# Altium integrated library Xilinx Spartan.IntLib: 39 symbols (part 2 of 4)
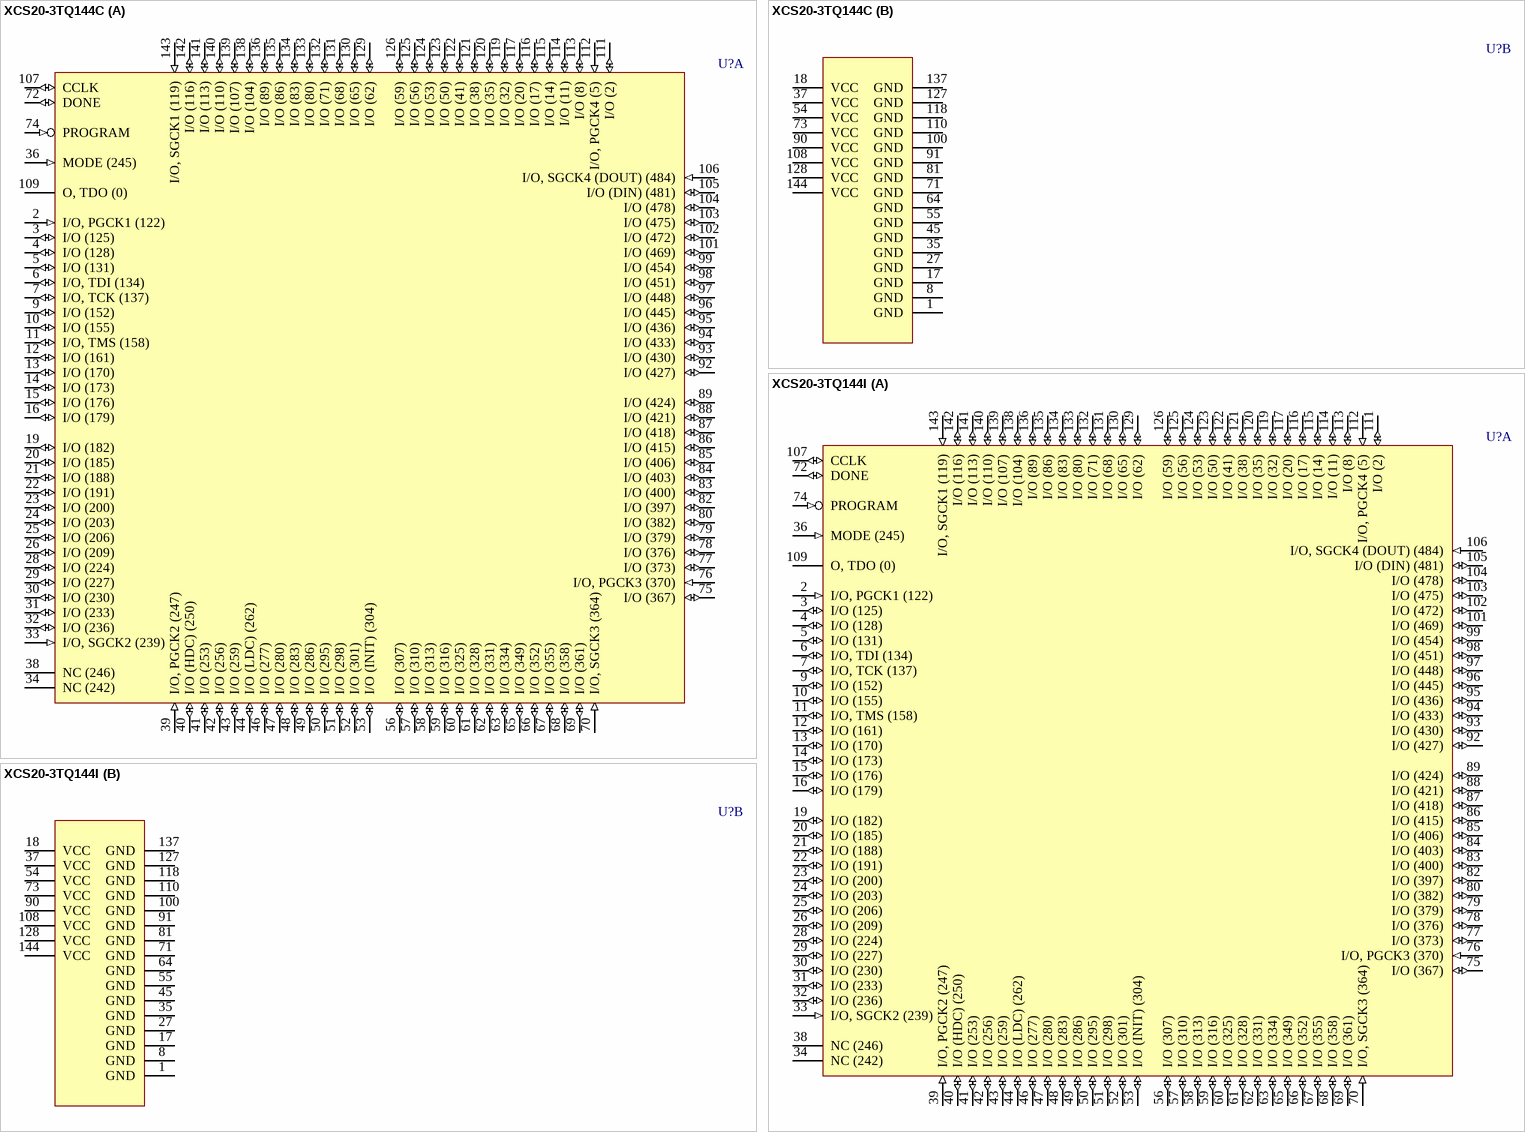
[diagram p27: symbols XCS20-3TQ144C to XCS20-3TQ144I]

## XCS20-3TQ144C
designator U?
Spartan FPGA, 113 User I/Os, 144-Pin TQFP, Speed Grade 3, Commercial Grade; Published: 13-Jul-2001; LatestRevisionDate: 16-Nov-2009; LatestRevisionNote: Updated to datasheet version 1.8 Jun-2008; DatasheetVersion: ver1.8, Jun-2008; PackageVersion: ver1.2, Jun-2004; PackageReference: TQ144; Publisher: Altium Limited; PackageDescription: 144-Pin Thin Quad Flat Pack (TQ144); Supplier 1: Digi-Key; Supplier Part Number 1: XCS20-3TQ144C-ND; Code_JEDEC: MS-026-BFB; ComponentLink1Description: Spartan(XL) Datasheet; ComponentLink1URL: http://www.xilinx.com/support/documentation/data_sheets/ds060.pdf; ComponentLink2Description: TQ144 Package Drawing; ComponentLink2URL: http://www.xilinx.com/support/documentation/package_specs/tq144.pdf; ComponentLink3Description: Spartan(XL) Documents; ComponentLink3URL: http://www.xilinx.com/support/documentation/spartan-xl.htm; ComponentLink4Description: Xilinx.com Home; ComponentLink4URL: http://www.xilinx.com
footprint TQ144_N (Thin QFP, 144-Leads, Body 20x20mm, Pitch 0.5mm, IPC Medium Density)
footprint TQ144_L (Thin QFP, 144-Leads, Body 20x20mm, Pitch 0.5mm, IPC High Density)
footprint TQ144_M (Thin QFP, 144-Leads, Body 20x20mm, Pitch 0.5mm, IPC Low Density)
part A pins: 2 I/O, PGCK1 (122) (in), 3 I/O (125) (io), 4 I/O (128) (io), 5 I/O (131) (io), 6 I/O, TDI (134) (io), 7 I/O, TCK (137) (io), 9 I/O (152) (io), 10 I/O (155) (io), 11 I/O, TMS (158) (io), 12 I/O (161) (io), 13 I/O (170) (io), 14 I/O (173) (io), 15 I/O (176) (io), 16 I/O (179) (io), 19 I/O (182) (io), 20 I/O (185) (io), 21 I/O (188) (io), 22 I/O (191) (io), 23 I/O (200) (io), 24 I/O (203) (io), 25 I/O (206) (io), 26 I/O (209) (io), 28 I/O (224) (io), 29 I/O (227) (io), 30 I/O (230) (io), 31 I/O (233) (io), 32 I/O (236) (io), 33 I/O, SGCK2 (239) (in), 34 NC (242), 36 MODE (245) (in), 38 NC (246), 39 I/O, PGCK2 (247) (in), 40 I/O (HDC) (250) (io), 41 I/O (253) (io), 42 I/O (256) (io), 43 I/O (259) (io), 44 I/O (LDC) (262) (io), 46 I/O (277) (io), 47 I/O (280) (io), 48 I/O (283) (io), 49 I/O (286) (io), 50 I/O (295) (io), 51 I/O (298) (io), 52 I/O (301) (io), 53 I/O (INIT) (304) (io), 56 I/O (307) (io), 57 I/O (310) (io), 58 I/O (313) (io), 59 I/O (316) (io), 60 I/O (325) (io), 61 I/O (328) (io), 62 I/O (331) (io), 63 I/O (334) (io), 65 I/O (349) (io), 66 I/O (352) (io), 67 I/O (355) (io), 68 I/O (358) (io), 69 I/O (361) (io), 70 I/O, SGCK3 (364) (in), 72 DONE (io), 74 PROGRAM (in), 75 I/O (367) (io), 76 I/O, PGCK3 (370) (in), 77 I/O (373) (io), 78 I/O (376) (io), 79 I/O (379) (io), 80 I/O (382) (io), 82 I/O (397) (io), 83 I/O (400) (io), 84 I/O (403) (io), 85 I/O (406) (io), 86 I/O (415) (io), 87 I/O (418) (io), 88 I/O (421) (io), 89 I/O (424) (io), 92 I/O (427) (io), 93 I/O (430) (io), 94 I/O (433) (io), 95 I/O (436) (io), 96 I/O (445) (io), 97 I/O (448) (io), 98 I/O (451) (io), 99 I/O (454) (io), 101 I/O (469) (io), 102 I/O (472) (io), 103 I/O (475) (io), 104 I/O (478) (io), 105 I/O (DIN) (481) (io), 106 I/O, SGCK4 (DOUT) (484) (in), 107 CCLK (io), 109 O, TDO (0) (hiz), 111 I/O (2) (io), 112 I/O, PGCK4 (5) (in), 113 I/O (8) (io), 114 I/O (11) (io), 115 I/O (14) (io), 116 I/O (17) (io), 117 I/O (20) (io), 119 I/O (32) (io), 120 I/O (35) (io), 121 I/O (38) (io), 122 I/O (41) (io), 123 I/O (50) (io), 124 I/O (53) (io), 125 I/O (56) (io), 126 I/O (59) (io), 129 I/O (62) (io), 130 I/O (65) (io), 131 I/O (68) (io), 132 I/O (71) (io), 133 I/O (80) (io), 134 I/O (83) (io), 135 I/O (86) (io), 136 I/O (89) (io), 138 I/O (104) (io), 139 I/O (107) (io), 140 I/O (110) (io), 141 I/O (113) (io), 142 I/O (116) (io), 143 I/O, SGCK1 (119) (in)
part B pins: 1 GND (power), 8 GND (power), 17 GND (power), 18 VCC (power), 27 GND (power), 35 GND (power), 37 VCC (power), 45 GND (power), 54 VCC (power), 55 GND (power), 64 GND (power), 71 GND (power), 73 VCC (power), 81 GND (power), 90 VCC (power), 91 GND (power), 100 GND (power), 108 VCC (power), 110 GND (power), 118 GND (power), 127 GND (power), 128 VCC (power), 137 GND (power), 144 VCC (power)

## XCS20-3TQ144I
designator U?
Spartan FPGA, 113 User I/Os, 144-Pin TQFP, Speed Grade 3, Industrial Grade; Published: 13-Jul-2001; LatestRevisionDate: 16-Nov-2009; LatestRevisionNote: Updated to datasheet version 1.8 Jun-2008; DatasheetVersion: ver1.8, Jun-2008; PackageVersion: ver1.2, Jun-2004; PackageReference: TQ144; Publisher: Altium Limited; PackageDescription: 144-Pin Thin Quad Flat Pack (TQ144); Supplier 1: Digi-Key; Supplier Part Number 1: XCS20-3TQ144I-ND; Code_JEDEC: MS-026-BFB; ComponentLink1Description: Spartan(XL) Datasheet; ComponentLink1URL: http://www.xilinx.com/support/documentation/data_sheets/ds060.pdf; ComponentLink2Description: TQ144 Package Drawing; ComponentLink2URL: http://www.xilinx.com/support/documentation/package_specs/tq144.pdf; ComponentLink3Description: Spartan(XL) Documents; ComponentLink3URL: http://www.xilinx.com/support/documentation/spartan-xl.htm; ComponentLink4Description: Xilinx.com Home; ComponentLink4URL: http://www.xilinx.com
footprint TQ144_N (Thin QFP, 144-Leads, Body 20x20mm, Pitch 0.5mm, IPC Medium Density)
footprint TQ144_L (Thin QFP, 144-Leads, Body 20x20mm, Pitch 0.5mm, IPC High Density)
footprint TQ144_M (Thin QFP, 144-Leads, Body 20x20mm, Pitch 0.5mm, IPC Low Density)
part A pins: 2 I/O, PGCK1 (122) (in), 3 I/O (125) (io), 4 I/O (128) (io), 5 I/O (131) (io), 6 I/O, TDI (134) (io), 7 I/O, TCK (137) (io), 9 I/O (152) (io), 10 I/O (155) (io), 11 I/O, TMS (158) (io), 12 I/O (161) (io), 13 I/O (170) (io), 14 I/O (173) (io), 15 I/O (176) (io), 16 I/O (179) (io), 19 I/O (182) (io), 20 I/O (185) (io), 21 I/O (188) (io), 22 I/O (191) (io), 23 I/O (200) (io), 24 I/O (203) (io), 25 I/O (206) (io), 26 I/O (209) (io), 28 I/O (224) (io), 29 I/O (227) (io), 30 I/O (230) (io), 31 I/O (233) (io), 32 I/O (236) (io), 33 I/O, SGCK2 (239) (in), 34 NC (242), 36 MODE (245) (in), 38 NC (246), 39 I/O, PGCK2 (247) (in), 40 I/O (HDC) (250) (io), 41 I/O (253) (io), 42 I/O (256) (io), 43 I/O (259) (io), 44 I/O (LDC) (262) (io), 46 I/O (277) (io), 47 I/O (280) (io), 48 I/O (283) (io), 49 I/O (286) (io), 50 I/O (295) (io), 51 I/O (298) (io), 52 I/O (301) (io), 53 I/O (INIT) (304) (io), 56 I/O (307) (io), 57 I/O (310) (io), 58 I/O (313) (io), 59 I/O (316) (io), 60 I/O (325) (io), 61 I/O (328) (io), 62 I/O (331) (io), 63 I/O (334) (io), 65 I/O (349) (io), 66 I/O (352) (io), 67 I/O (355) (io), 68 I/O (358) (io), 69 I/O (361) (io), 70 I/O, SGCK3 (364) (in), 72 DONE (io), 74 PROGRAM (in), 75 I/O (367) (io), 76 I/O, PGCK3 (370) (in), 77 I/O (373) (io), 78 I/O (376) (io), 79 I/O (379) (io), 80 I/O (382) (io), 82 I/O (397) (io), 83 I/O (400) (io), 84 I/O (403) (io), 85 I/O (406) (io), 86 I/O (415) (io), 87 I/O (418) (io), 88 I/O (421) (io), 89 I/O (424) (io), 92 I/O (427) (io), 93 I/O (430) (io), 94 I/O (433) (io), 95 I/O (436) (io), 96 I/O (445) (io), 97 I/O (448) (io), 98 I/O (451) (io), 99 I/O (454) (io), 101 I/O (469) (io), 102 I/O (472) (io), 103 I/O (475) (io), 104 I/O (478) (io), 105 I/O (DIN) (481) (io), 106 I/O, SGCK4 (DOUT) (484) (in), 107 CCLK (io), 109 O, TDO (0) (hiz), 111 I/O (2) (io), 112 I/O, PGCK4 (5) (in), 113 I/O (8) (io), 114 I/O (11) (io), 115 I/O (14) (io), 116 I/O (17) (io), 117 I/O (20) (io), 119 I/O (32) (io), 120 I/O (35) (io), 121 I/O (38) (io), 122 I/O (41) (io), 123 I/O (50) (io), 124 I/O (53) (io), 125 I/O (56) (io), 126 I/O (59) (io), 129 I/O (62) (io), 130 I/O (65) (io), 131 I/O (68) (io), 132 I/O (71) (io), 133 I/O (80) (io), 134 I/O (83) (io), 135 I/O (86) (io), 136 I/O (89) (io), 138 I/O (104) (io), 139 I/O (107) (io), 140 I/O (110) (io), 141 I/O (113) (io), 142 I/O (116) (io), 143 I/O, SGCK1 (119) (in)
part B pins: 1 GND (power), 8 GND (power), 17 GND (power), 18 VCC (power), 27 GND (power), 35 GND (power), 37 VCC (power), 45 GND (power), 54 VCC (power), 55 GND (power), 64 GND (power), 71 GND (power), 73 VCC (power), 81 GND (power), 90 VCC (power), 91 GND (power), 100 GND (power), 108 VCC (power), 110 GND (power), 118 GND (power), 127 GND (power), 128 VCC (power), 137 GND (power), 144 VCC (power)

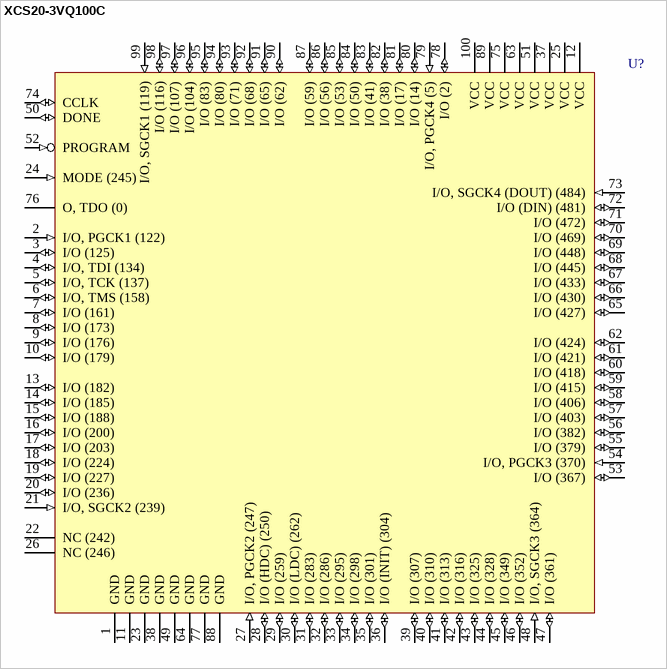
[diagram p7: symbol XCS20-3VQ100C]

## XCS20-3VQ100C
designator U?
Spartan FPGA, 77 User I/Os, 100-Pin VQFP, Speed Grade 3, Commercial Grade; Published: 13-Jul-2001; LatestRevisionDate: 16-Nov-2009; LatestRevisionNote: Updated to datasheet version 1.8 Jun-2008; DatasheetVersion: ver1.8, Jun-2008; PackageVersion: ver1.2.1, Feb-2007; PackageReference: VQ100; Publisher: Altium Limited; PackageDescription: 100-Pin Very Thin Quad Flat Pack (VQ100); Supplier 1: Digi-Key; Supplier Part Number 1: XCS20-3VQ100C-ND; Code_JEDEC: MS-026-AED; ComponentLink1Description: Spartan(XL) Datasheet; ComponentLink1URL: http://www.xilinx.com/support/documentation/data_sheets/ds060.pdf; ComponentLink2Description: VQ100 Package Drawing; ComponentLink2URL: http://www.xilinx.com/support/documentation/package_specs/vq100.pdf; ComponentLink3Description: Spartan(XL) Documents; ComponentLink3URL: http://www.xilinx.com/support/documentation/spartan-xl.htm; ComponentLink4Description: Xilinx.com Home; ComponentLink4URL: http://www.xilinx.com
footprint VQ100_N (Thin QFP, 100-Leads, Body 14x14mm, Pitch 0.5mm, IPC Medium Density)
footprint VQ100_L (Thin QFP, 100-Leads, Body 14x14mm, Pitch 0.5mm, IPC High Density)
footprint VQ100_M (Thin QFP, 100-Leads, Body 14x14mm, Pitch 0.5mm, IPC Low Density)
pins: 1 GND (power), 2 I/O, PGCK1 (122) (in), 3 I/O (125) (io), 4 I/O, TDI (134) (io), 5 I/O, TCK (137) (io), 6 I/O, TMS (158) (io), 7 I/O (161) (io), 8 I/O (173) (io), 9 I/O (176) (io), 10 I/O (179) (io), 11 GND (power), 12 VCC (power), 13 I/O (182) (io), 14 I/O (185) (io), 15 I/O (188) (io), 16 I/O (200) (io), 17 I/O (203) (io), 18 I/O (224) (io), 19 I/O (227) (io), 20 I/O (236) (io), 21 I/O, SGCK2 (239) (in), 22 NC (242), 23 GND (power), 24 MODE (245) (in), 25 VCC (power), 26 NC (246), 27 I/O, PGCK2 (247) (in), 28 I/O (HDC) (250) (io), 29 I/O (259) (io), 30 I/O (LDC) (262) (io), 31 I/O (283) (io), 32 I/O (286) (io), 33 I/O (295) (io), 34 I/O (298) (io), 35 I/O (301) (io), 36 I/O (INIT) (304) (io), 37 VCC (power), 38 GND (power), 39 I/O (307) (io), 40 I/O (310) (io), 41 I/O (313) (io), 42 I/O (316) (io), 43 I/O (325) (io), 44 I/O (328) (io), 45 I/O (349) (io), 46 I/O (352) (io), 47 I/O (361) (io), 48 I/O, SGCK3 (364) (in), 49 GND (power), 50 DONE (io), 51 VCC (power), 52 PROGRAM (in), 53 I/O (367) (io), 54 I/O, PGCK3 (370) (in), 55 I/O (379) (io), 56 I/O (382) (io), 57 I/O (403) (io), 58 I/O (406) (io), 59 I/O (415) (io), 60 I/O (418) (io), 61 I/O (421) (io), 62 I/O (424) (io), 63 VCC (power), 64 GND (power), 65 I/O (427) (io), 66 I/O (430) (io), 67 I/O (433) (io), 68 I/O (445) (io), 69 I/O (448) (io), 70 I/O (469) (io), 71 I/O (472) (io), 72 I/O (DIN) (481) (io), 73 I/O, SGCK4 (DOUT) (484) (in), 74 CCLK (io), 75 VCC (power), 76 O, TDO (0) (hiz), 77 GND (power), 78 I/O (2) (io), 79 I/O, PGCK4 (5) (in), 80 I/O (14) (io), 81 I/O (17) (io), 82 I/O (38) (io), 83 I/O (41) (io), 84 I/O (50) (io), 85 I/O (53) (io), 86 I/O (56) (io), 87 I/O (59) (io), 88 GND (power), 89 VCC (power), 90 I/O (62) (io), 91 I/O (65) (io), 92 I/O (68) (io), 93 I/O (71) (io), 94 I/O (80) (io), 95 I/O (83) (io), 96 I/O (104) (io), 97 I/O (107) (io), 98 I/O (116) (io), 99 I/O, SGCK1 (119) (in), 100 VCC (power)

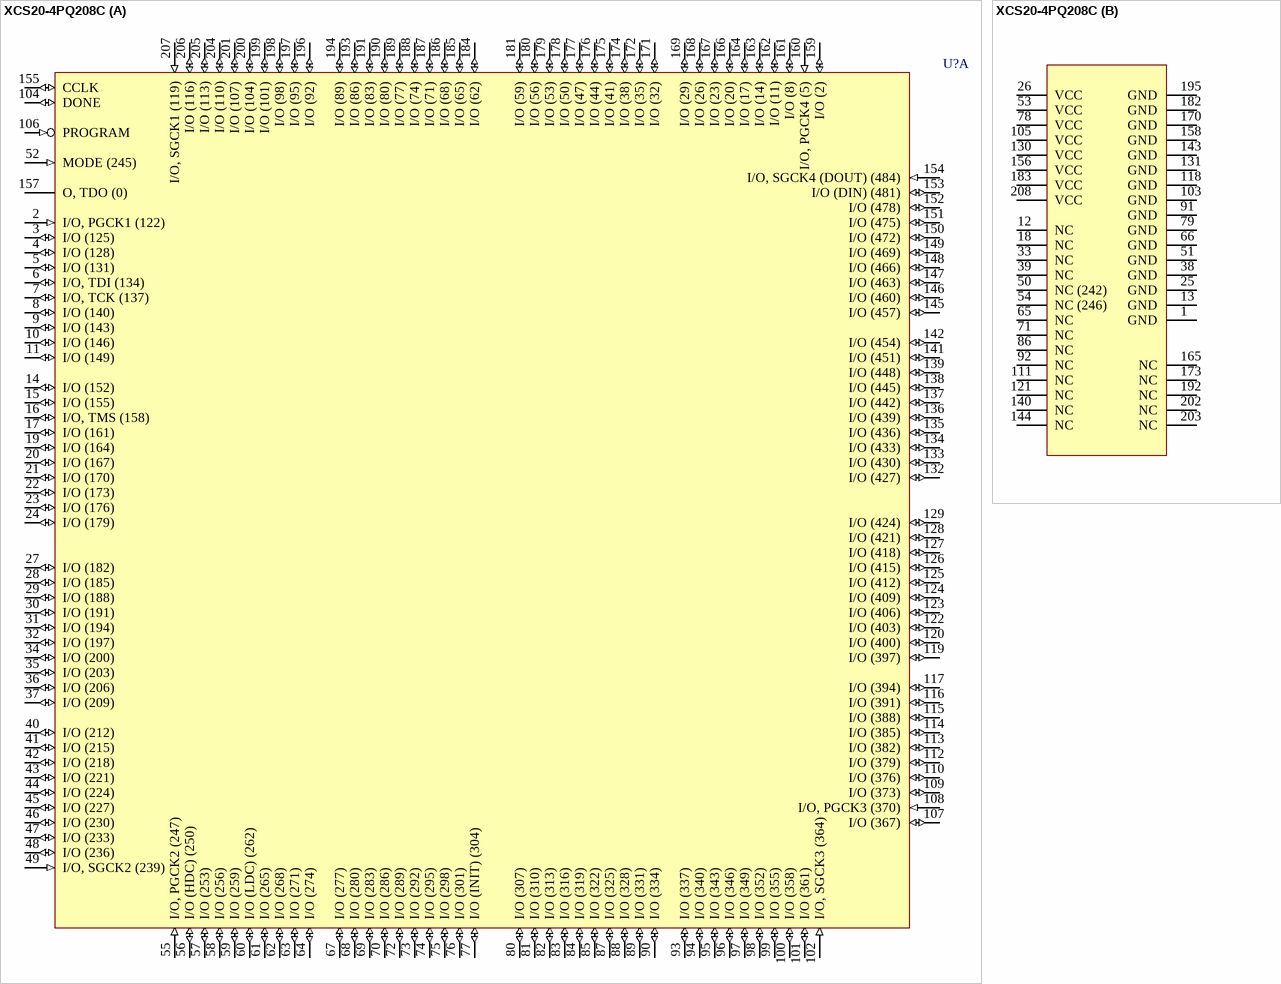
[diagram p8: symbol XCS20-4PQ208C]

## XCS20-4PQ208C
designator U?
Spartan FPGA, 160 User I/Os, 208-Pin PQFP, Speed Grade 4, Commercial Grade; Published: 13-Jul-2001; LatestRevisionDate: 16-Nov-2009; LatestRevisionNote: Updated to datasheet version 1.8 Jun-2008; DatasheetVersion: ver1.8, Jun-2008; PackageVersion: ver1.2, Jun-2004; PackageReference: PQ208; Publisher: Altium Limited; PackageDescription: 208-Pin Plastic Quad Flat Pack (PQ208); Supplier 1: Digi-Key; Supplier Part Number 1: XCS20-4PQ208C-ND; Code_JEDEC: MS-029-FA-1; ComponentLink1Description: Spartan(XL) Datasheet; ComponentLink1URL: http://www.xilinx.com/support/documentation/data_sheets/ds060.pdf; ComponentLink2Description: PQ208 Package Drawing; ComponentLink2URL: http://www.xilinx.com/support/documentation/package_specs/pq208.pdf; ComponentLink3Description: Spartan(XL) Documents; ComponentLink3URL: http://www.xilinx.com/support/documentation/spartan-xl.htm; ComponentLink4Description: Xilinx.com Home; ComponentLink4URL: http://www.xilinx.com
footprint PQ208_N (Shrink QFP, 208-Leads, Body 28x28mm, Pitch 0.5mm, IPC Medium Density)
footprint PQ208_L (Shrink QFP, 208-Leads, Body 28x28mm, Pitch 0.5mm, IPC High Density)
footprint PQ208_M (Shrink QFP, 208-Leads, Body 28x28mm, Pitch 0.5mm, IPC Low Density)
part A pins: 2 I/O, PGCK1 (122) (in), 3 I/O (125) (io), 4 I/O (128) (io), 5 I/O (131) (io), 6 I/O, TDI (134) (io), 7 I/O, TCK (137) (io), 8 I/O (140) (io), 9 I/O (143) (io), 10 I/O (146) (io), 11 I/O (149) (io), 14 I/O (152) (io), 15 I/O (155) (io), 16 I/O, TMS (158) (io), 17 I/O (161) (io), 19 I/O (164) (io), 20 I/O (167) (io), 21 I/O (170) (io), 22 I/O (173) (io), 23 I/O (176) (io), 24 I/O (179) (io), 27 I/O (182) (io), 28 I/O (185) (io), 29 I/O (188) (io), 30 I/O (191) (io), 31 I/O (194) (io), 32 I/O (197) (io), 34 I/O (200) (io), 35 I/O (203) (io), 36 I/O (206) (io), 37 I/O (209) (io), 40 I/O (212) (io), 41 I/O (215) (io), 42 I/O (218) (io), 43 I/O (221) (io), 44 I/O (224) (io), 45 I/O (227) (io), 46 I/O (230) (io), 47 I/O (233) (io), 48 I/O (236) (io), 49 I/O, SGCK2 (239) (in), 52 MODE (245) (in), 55 I/O, PGCK2 (247) (in), 56 I/O (HDC) (250) (io), 57 I/O (253) (io), 58 I/O (256) (io), 59 I/O (259) (io), 60 I/O (LDC) (262) (io), 61 I/O (265) (io), 62 I/O (268) (io), 63 I/O (271) (io), 64 I/O (274) (io), 67 I/O (277) (io), 68 I/O (280) (io), 69 I/O (283) (io), 70 I/O (286) (io), 72 I/O (289) (io), 73 I/O (292) (io), 74 I/O (295) (io), 75 I/O (298) (io), 76 I/O (301) (io), 77 I/O (INIT) (304) (io), 80 I/O (307) (io), 81 I/O (310) (io), 82 I/O (313) (io), 83 I/O (316) (io), 84 I/O (319) (io), 85 I/O (322) (io), 87 I/O (325) (io), 88 I/O (328) (io), 89 I/O (331) (io), 90 I/O (334) (io), 93 I/O (337) (io), 94 I/O (340) (io), 95 I/O (343) (io), 96 I/O (346) (io), 97 I/O (349) (io), 98 I/O (352) (io), 99 I/O (355) (io), 100 I/O (358) (io), 101 I/O (361) (io), 102 I/O, SGCK3 (364) (in), 104 DONE (io), 106 PROGRAM (in), 107 I/O (367) (io), 108 I/O, PGCK3 (370) (in), 109 I/O (373) (io), 110 I/O (376) (io), 112 I/O (379) (io), 113 I/O (382) (io), 114 I/O (385) (io), 115 I/O (388) (io), 116 I/O (391) (io), 117 I/O (394) (io), 119 I/O (397) (io), 120 I/O (400) (io), 122 I/O (403) (io), 123 I/O (406) (io), 124 I/O (409) (io), 125 I/O (412) (io), 126 I/O (415) (io), 127 I/O (418) (io), 128 I/O (421) (io), 129 I/O (424) (io), 132 I/O (427) (io), 133 I/O (430) (io), 134 I/O (433) (io), 135 I/O (436) (io), 136 I/O (439) (io), 137 I/O (442) (io), 138 I/O (445) (io), 139 I/O (448) (io), 141 I/O (451) (io), 142 I/O (454) (io), 145 I/O (457) (io), 146 I/O (460) (io), 147 I/O (463) (io), 148 I/O (466) (io), 149 I/O (469) (io), 150 I/O (472) (io), 151 I/O (475) (io), 152 I/O (478) (io), 153 I/O (DIN) (481) (io), 154 I/O, SGCK4 (DOUT) (484) (in), 155 CCLK (io), 157 O, TDO (0) (hiz), 159 I/O (2) (io), 160 I/O, PGCK4 (5) (in), 161 I/O (8) (io), 162 I/O (11) (io), 163 I/O (14) (io), 164 I/O (17) (io), 166 I/O (20) (io), 167 I/O (23) (io), 168 I/O (26) (io), 169 I/O (29) (io), 171 I/O (32) (io), 172 I/O (35) (io), 174 I/O (38) (io), 175 I/O (41) (io), 176 I/O (44) (io), 177 I/O (47) (io), 178 I/O (50) (io), 179 I/O (53) (io), 180 I/O (56) (io), 181 I/O (59) (io), 184 I/O (62) (io), 185 I/O (65) (io), 186 I/O (68) (io), 187 I/O (71) (io), 188 I/O (74) (io), 189 I/O (77) (io), 190 I/O (80) (io), 191 I/O (83) (io), 193 I/O (86) (io), 194 I/O (89) (io), 196 I/O (92) (io), 197 I/O (95) (io), 198 I/O (98) (io), 199 I/O (101) (io), 200 I/O (104) (io), 201 I/O (107) (io), 204 I/O (110) (io), 205 I/O (113) (io), 206 I/O (116) (io), 207 I/O, SGCK1 (119) (in)
part B pins: 1 GND (power), 12 NC, 13 GND (power), 18 NC, 25 GND (power), 26 VCC (power), 33 NC, 38 GND (power), 39 NC, 50 NC (242), 51 GND (power), 53 VCC (power), 54 NC (246), 65 NC, 66 GND (power), 71 NC, 78 VCC (power), 79 GND (power), 86 NC, 91 GND (power), 92 NC, 103 GND (power), 105 VCC (power), 111 NC, 118 GND (power), 121 NC, 130 VCC (power), 131 GND (power), 140 NC, 143 GND (power), 144 NC, 156 VCC (power), 158 GND (power), 165 NC, 170 GND (power), 173 NC, 182 GND (power), 183 VCC (power), 192 NC, 195 GND (power), 202 NC, 203 NC, 208 VCC (power)

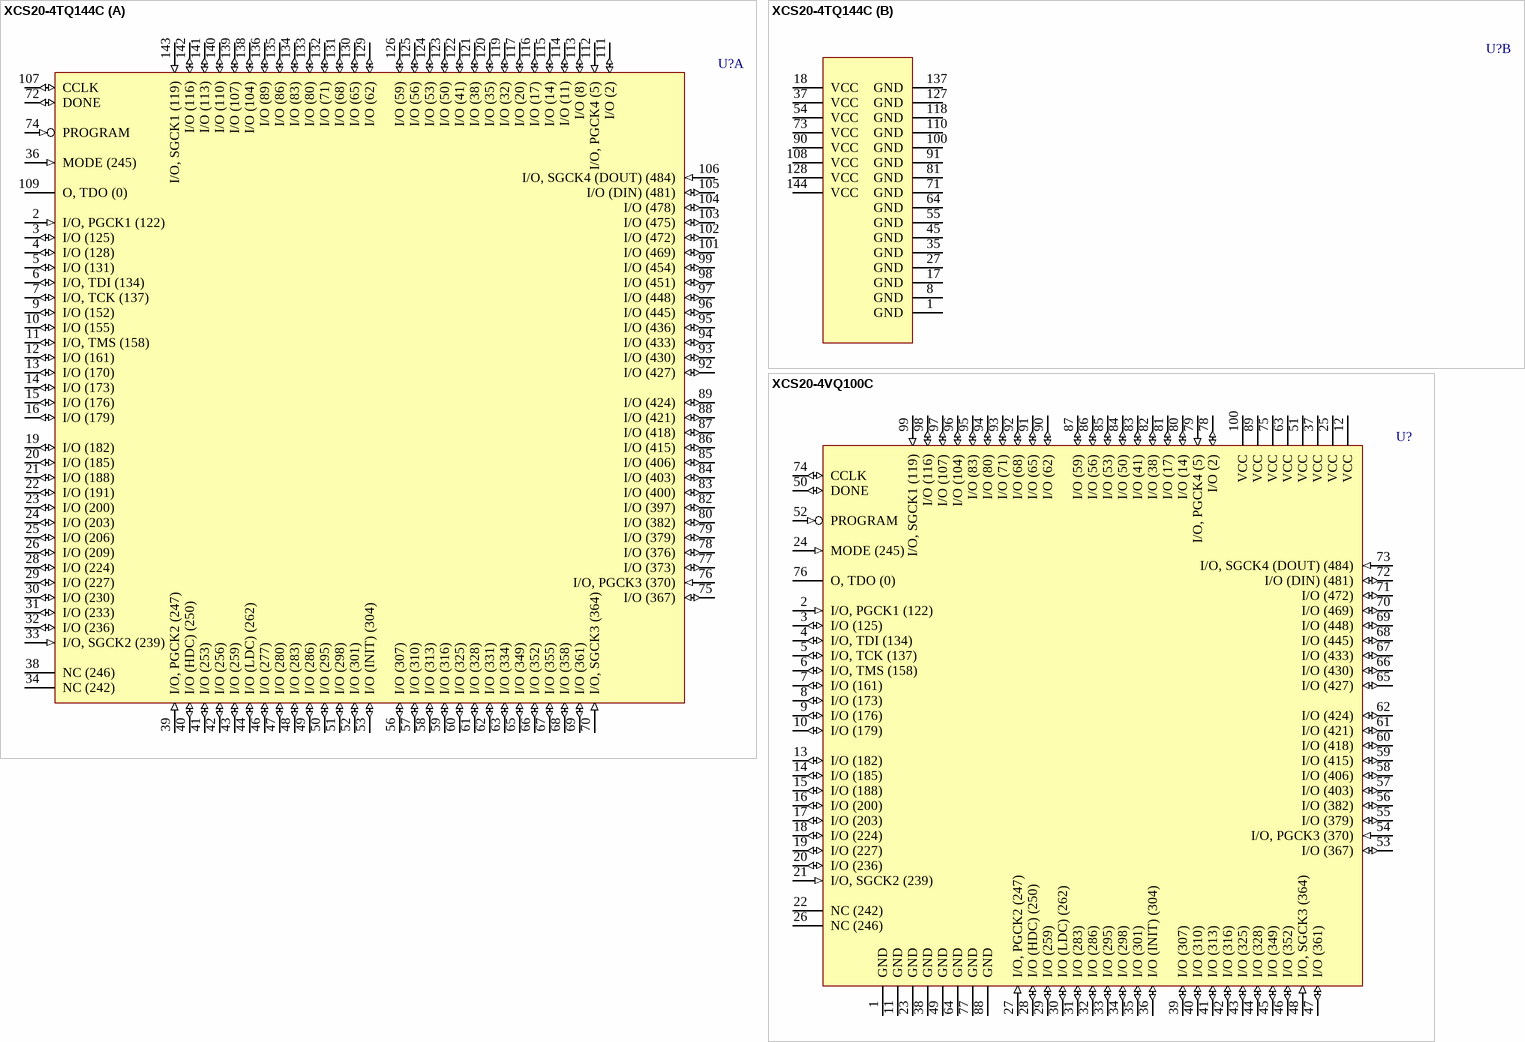
[diagram p9: symbols XCS20-4TQ144C to XCS20-4VQ100C]

## XCS20-4TQ144C
designator U?
Spartan FPGA, 113 User I/Os, 144-Pin TQFP, Speed Grade 4, Commercial Grade; Published: 13-Jul-2001; LatestRevisionDate: 16-Nov-2009; LatestRevisionNote: Updated to datasheet version 1.8 Jun-2008; DatasheetVersion: ver1.8, Jun-2008; PackageVersion: ver1.2, Jun-2004; PackageReference: TQ144; Publisher: Altium Limited; PackageDescription: 144-Pin Thin Quad Flat Pack (TQ144); Supplier 1: Digi-Key; Supplier Part Number 1: XCS20-4TQ144C-ND; Code_JEDEC: MS-026-BFB; ComponentLink1Description: Spartan(XL) Datasheet; ComponentLink1URL: http://www.xilinx.com/support/documentation/data_sheets/ds060.pdf; ComponentLink2Description: TQ144 Package Drawing; ComponentLink2URL: http://www.xilinx.com/support/documentation/package_specs/tq144.pdf; ComponentLink3Description: Spartan(XL) Documents; ComponentLink3URL: http://www.xilinx.com/support/documentation/spartan-xl.htm; ComponentLink4Description: Xilinx.com Home; ComponentLink4URL: http://www.xilinx.com
footprint TQ144_N (Thin QFP, 144-Leads, Body 20x20mm, Pitch 0.5mm, IPC Medium Density)
footprint TQ144_L (Thin QFP, 144-Leads, Body 20x20mm, Pitch 0.5mm, IPC High Density)
footprint TQ144_M (Thin QFP, 144-Leads, Body 20x20mm, Pitch 0.5mm, IPC Low Density)
part A pins: 2 I/O, PGCK1 (122) (in), 3 I/O (125) (io), 4 I/O (128) (io), 5 I/O (131) (io), 6 I/O, TDI (134) (io), 7 I/O, TCK (137) (io), 9 I/O (152) (io), 10 I/O (155) (io), 11 I/O, TMS (158) (io), 12 I/O (161) (io), 13 I/O (170) (io), 14 I/O (173) (io), 15 I/O (176) (io), 16 I/O (179) (io), 19 I/O (182) (io), 20 I/O (185) (io), 21 I/O (188) (io), 22 I/O (191) (io), 23 I/O (200) (io), 24 I/O (203) (io), 25 I/O (206) (io), 26 I/O (209) (io), 28 I/O (224) (io), 29 I/O (227) (io), 30 I/O (230) (io), 31 I/O (233) (io), 32 I/O (236) (io), 33 I/O, SGCK2 (239) (in), 34 NC (242), 36 MODE (245) (in), 38 NC (246), 39 I/O, PGCK2 (247) (in), 40 I/O (HDC) (250) (io), 41 I/O (253) (io), 42 I/O (256) (io), 43 I/O (259) (io), 44 I/O (LDC) (262) (io), 46 I/O (277) (io), 47 I/O (280) (io), 48 I/O (283) (io), 49 I/O (286) (io), 50 I/O (295) (io), 51 I/O (298) (io), 52 I/O (301) (io), 53 I/O (INIT) (304) (io), 56 I/O (307) (io), 57 I/O (310) (io), 58 I/O (313) (io), 59 I/O (316) (io), 60 I/O (325) (io), 61 I/O (328) (io), 62 I/O (331) (io), 63 I/O (334) (io), 65 I/O (349) (io), 66 I/O (352) (io), 67 I/O (355) (io), 68 I/O (358) (io), 69 I/O (361) (io), 70 I/O, SGCK3 (364) (in), 72 DONE (io), 74 PROGRAM (in), 75 I/O (367) (io), 76 I/O, PGCK3 (370) (in), 77 I/O (373) (io), 78 I/O (376) (io), 79 I/O (379) (io), 80 I/O (382) (io), 82 I/O (397) (io), 83 I/O (400) (io), 84 I/O (403) (io), 85 I/O (406) (io), 86 I/O (415) (io), 87 I/O (418) (io), 88 I/O (421) (io), 89 I/O (424) (io), 92 I/O (427) (io), 93 I/O (430) (io), 94 I/O (433) (io), 95 I/O (436) (io), 96 I/O (445) (io), 97 I/O (448) (io), 98 I/O (451) (io), 99 I/O (454) (io), 101 I/O (469) (io), 102 I/O (472) (io), 103 I/O (475) (io), 104 I/O (478) (io), 105 I/O (DIN) (481) (io), 106 I/O, SGCK4 (DOUT) (484) (in), 107 CCLK (io), 109 O, TDO (0) (hiz), 111 I/O (2) (io), 112 I/O, PGCK4 (5) (in), 113 I/O (8) (io), 114 I/O (11) (io), 115 I/O (14) (io), 116 I/O (17) (io), 117 I/O (20) (io), 119 I/O (32) (io), 120 I/O (35) (io), 121 I/O (38) (io), 122 I/O (41) (io), 123 I/O (50) (io), 124 I/O (53) (io), 125 I/O (56) (io), 126 I/O (59) (io), 129 I/O (62) (io), 130 I/O (65) (io), 131 I/O (68) (io), 132 I/O (71) (io), 133 I/O (80) (io), 134 I/O (83) (io), 135 I/O (86) (io), 136 I/O (89) (io), 138 I/O (104) (io), 139 I/O (107) (io), 140 I/O (110) (io), 141 I/O (113) (io), 142 I/O (116) (io), 143 I/O, SGCK1 (119) (in)
part B pins: 1 GND (power), 8 GND (power), 17 GND (power), 18 VCC (power), 27 GND (power), 35 GND (power), 37 VCC (power), 45 GND (power), 54 VCC (power), 55 GND (power), 64 GND (power), 71 GND (power), 73 VCC (power), 81 GND (power), 90 VCC (power), 91 GND (power), 100 GND (power), 108 VCC (power), 110 GND (power), 118 GND (power), 127 GND (power), 128 VCC (power), 137 GND (power), 144 VCC (power)

## XCS20-4VQ100C
designator U?
Spartan FPGA, 77 User I/Os, 100-Pin VQFP, Speed Grade 4, Commercial Grade; Published: 13-Jul-2001; LatestRevisionDate: 16-Nov-2009; LatestRevisionNote: Updated to datasheet version 1.8 Jun-2008; DatasheetVersion: ver1.8, Jun-2008; PackageVersion: ver1.2.1, Feb-2007; PackageReference: VQ100; Publisher: Altium Limited; PackageDescription: 100-Pin Very Thin Quad Flat Pack (VQ100); Supplier 1: Digi-Key; Supplier Part Number 1: XCS20-4VQ100C-ND; Code_JEDEC: MS-026-AED; ComponentLink1Description: Spartan(XL) Datasheet; ComponentLink1URL: http://www.xilinx.com/support/documentation/data_sheets/ds060.pdf; ComponentLink2Description: VQ100 Package Drawing; ComponentLink2URL: http://www.xilinx.com/support/documentation/package_specs/vq100.pdf; ComponentLink3Description: Spartan(XL) Documents; ComponentLink3URL: http://www.xilinx.com/support/documentation/spartan-xl.htm; ComponentLink4Description: Xilinx.com Home; ComponentLink4URL: http://www.xilinx.com
footprint VQ100_N (Thin QFP, 100-Leads, Body 14x14mm, Pitch 0.5mm, IPC Medium Density)
footprint VQ100_L (Thin QFP, 100-Leads, Body 14x14mm, Pitch 0.5mm, IPC High Density)
footprint VQ100_M (Thin QFP, 100-Leads, Body 14x14mm, Pitch 0.5mm, IPC Low Density)
pins: 1 GND (power), 2 I/O, PGCK1 (122) (in), 3 I/O (125) (io), 4 I/O, TDI (134) (io), 5 I/O, TCK (137) (io), 6 I/O, TMS (158) (io), 7 I/O (161) (io), 8 I/O (173) (io), 9 I/O (176) (io), 10 I/O (179) (io), 11 GND (power), 12 VCC (power), 13 I/O (182) (io), 14 I/O (185) (io), 15 I/O (188) (io), 16 I/O (200) (io), 17 I/O (203) (io), 18 I/O (224) (io), 19 I/O (227) (io), 20 I/O (236) (io), 21 I/O, SGCK2 (239) (in), 22 NC (242), 23 GND (power), 24 MODE (245) (in), 25 VCC (power), 26 NC (246), 27 I/O, PGCK2 (247) (in), 28 I/O (HDC) (250) (io), 29 I/O (259) (io), 30 I/O (LDC) (262) (io), 31 I/O (283) (io), 32 I/O (286) (io), 33 I/O (295) (io), 34 I/O (298) (io), 35 I/O (301) (io), 36 I/O (INIT) (304) (io), 37 VCC (power), 38 GND (power), 39 I/O (307) (io), 40 I/O (310) (io), 41 I/O (313) (io), 42 I/O (316) (io), 43 I/O (325) (io), 44 I/O (328) (io), 45 I/O (349) (io), 46 I/O (352) (io), 47 I/O (361) (io), 48 I/O, SGCK3 (364) (in), 49 GND (power), 50 DONE (io), 51 VCC (power), 52 PROGRAM (in), 53 I/O (367) (io), 54 I/O, PGCK3 (370) (in), 55 I/O (379) (io), 56 I/O (382) (io), 57 I/O (403) (io), 58 I/O (406) (io), 59 I/O (415) (io), 60 I/O (418) (io), 61 I/O (421) (io), 62 I/O (424) (io), 63 VCC (power), 64 GND (power), 65 I/O (427) (io), 66 I/O (430) (io), 67 I/O (433) (io), 68 I/O (445) (io), 69 I/O (448) (io), 70 I/O (469) (io), 71 I/O (472) (io), 72 I/O (DIN) (481) (io), 73 I/O, SGCK4 (DOUT) (484) (in), 74 CCLK (io), 75 VCC (power), 76 O, TDO (0) (hiz), 77 GND (power), 78 I/O (2) (io), 79 I/O, PGCK4 (5) (in), 80 I/O (14) (io), 81 I/O (17) (io), 82 I/O (38) (io), 83 I/O (41) (io), 84 I/O (50) (io), 85 I/O (53) (io), 86 I/O (56) (io), 87 I/O (59) (io), 88 GND (power), 89 VCC (power), 90 I/O (62) (io), 91 I/O (65) (io), 92 I/O (68) (io), 93 I/O (71) (io), 94 I/O (80) (io), 95 I/O (83) (io), 96 I/O (104) (io), 97 I/O (107) (io), 98 I/O (116) (io), 99 I/O, SGCK1 (119) (in), 100 VCC (power)

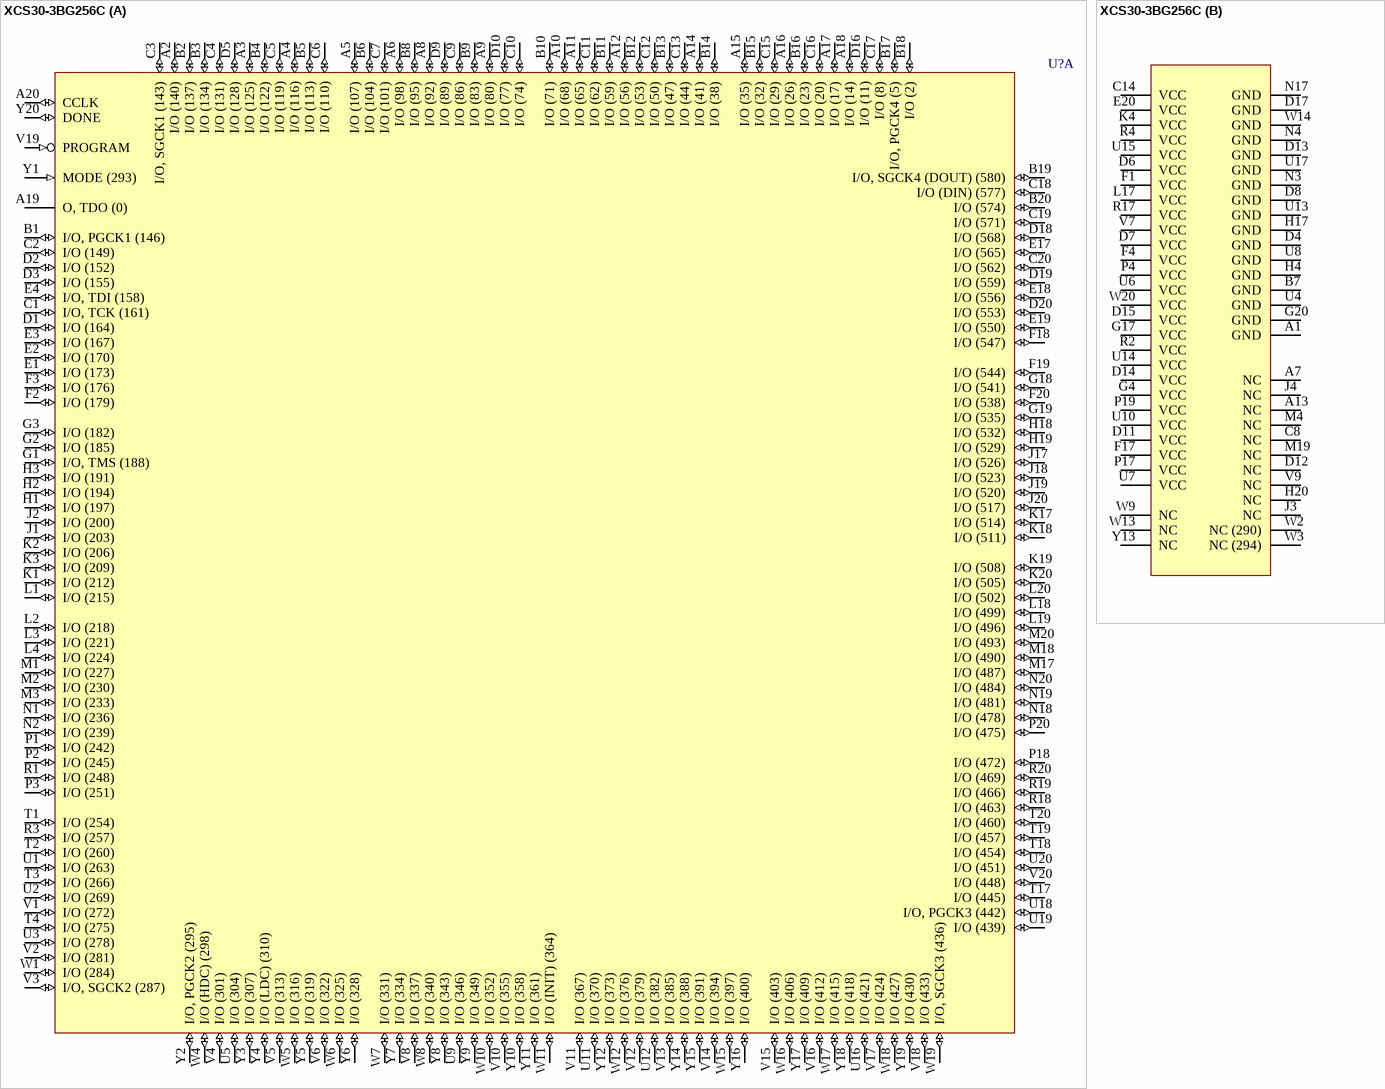
[diagram p10: symbol XCS30-3BG256C]

## XCS30-3BG256C
designator U?
Spartan FPGA, 192 User I/Os, 256-Ball BGA, Speed Grade 3, Commercial Grade; Published: 13-Jul-2001; LatestRevisionDate: 16-Nov-2009; LatestRevisionNote: Updated to datasheet version 1.8 Jun-2008; DatasheetVersion: ver1.8, Jun-2008; PackageVersion: ver1.2, Apr-2006; PackageReference: BG256; Publisher: Altium Limited; PackageDescription: 256-Ball Plastic Ball Grid Array (BG256); Supplier 1: Digi-Key; Supplier Part Number 1: XCS30-3BG256C-ND; Code_JEDEC: MS-034-BAL-2; ComponentLink1Description: Spartan(XL) Datasheet; ComponentLink1URL: http://www.xilinx.com/support/documentation/data_sheets/ds060.pdf; ComponentLink2Description: Discontinuation Notice; ComponentLink2URL: http://www.xilinx.com/support/documentation/customer_notices/pdn2004-01.pdf; ComponentLink3Description: BG256 Package Drawing; ComponentLink3URL: http://www.xilinx.com/support/documentation/package_specs/bg256.pdf; ComponentLink4Description: Spartan(XL) Documents; ComponentLink4URL: http://www.xilinx.com/support/documentation/spartan-xl.htm; ComponentLink5Description: Xilinx.com Home; ComponentLink5URL: http://www.xilinx.com
footprint BG256 (BGA, 256-Leads, Body 27x27mm, Pitch 1.27mm)
part A pins: A2 I/O (140) (io), A3 I/O (125) (io), A4 I/O (116) (io), A5 I/O (107) (io), A6 I/O (98) (io), A8 I/O (92) (io), A9 I/O (80) (io), A10 I/O (68) (io), A11 I/O (65) (io), A12 I/O (56) (io), A14 I/O (41) (io), A15 I/O (35) (io), A16 I/O (26) (io), A17 I/O (17) (io), A18 I/O (14) (io), A19 O, TDO (0) (hiz), A20 CCLK (io), B1 I/O, PGCK1 (146) (io), B2 I/O (137) (io), B3 I/O (134) (io), B4 I/O (122) (io), B5 I/O (113) (io), B6 I/O (104) (io), B8 I/O (95) (io), B9 I/O (83) (io), B10 I/O (71) (io), B11 I/O (59) (io), B12 I/O (53) (io), B13 I/O (47) (io), B14 I/O (38) (io), B15 I/O (32) (io), B16 I/O (23) (io), B17 I/O, PGCK4 (5) (io), B18 I/O (2) (io), B19 I/O, SGCK4 (DOUT) (580) (io), B20 I/O (574) (io), C1 I/O, TCK (161) (io), C2 I/O (149) (io), C3 I/O, SGCK1 (143) (io), C4 I/O (131) (io), C5 I/O (119) (io), C6 I/O (110) (io), C7 I/O (101) (io), C9 I/O (86) (io), C10 I/O (74) (io), C11 I/O (62) (io), C12 I/O (50) (io), C13 I/O (44) (io), C15 I/O (29) (io), C16 I/O (20) (io), C17 I/O (8) (io), C18 I/O (DIN) (577) (io), C19 I/O (571) (io), C20 I/O (562) (io), D1 I/O (164) (io), D2 I/O (152) (io), D3 I/O (155) (io), D5 I/O (128) (io), D9 I/O (89) (io), D10 I/O (77) (io), D16 I/O (11) (io), D18 I/O (568) (io), D19 I/O (559) (io), D20 I/O (553) (io), E1 I/O (173) (io), E2 I/O (170) (io), E3 I/O (167) (io), E4 I/O, TDI (158) (io), E17 I/O (565) (io), E18 I/O (556) (io), E19 I/O (550) (io), F2 I/O (179) (io), F3 I/O (176) (io), F18 I/O (547) (io), F19 I/O (544) (io), F20 I/O (538) (io), G1 I/O, TMS (188) (io), G2 I/O (185) (io), G3 I/O (182) (io), G18 I/O (541) (io), G19 I/O (535) (io), H1 I/O (197) (io), H2 I/O (194) (io), H3 I/O (191) (io), H18 I/O (532) (io), H19 I/O (529) (io), J1 I/O (203) (io), J2 I/O (200) (io), J17 I/O (526) (io), J18 I/O (523) (io), J19 I/O (520) (io), J20 I/O (517) (io), K1 I/O (212) (io), K2 I/O (206) (io), K3 I/O (209) (io), K17 I/O (514) (io), K18 I/O (511) (io), K19 I/O (508) (io), K20 I/O (505) (io), L1 I/O (215) (io), L2 I/O (218) (io), L3 I/O (221) (io), L4 I/O (224) (io), L18 I/O (499) (io), L19 I/O (496) (io), L20 I/O (502) (io), M1 I/O (227) (io), M2 I/O (230) (io), M3 I/O (233) (io), M17 I/O (487) (io), M18 I/O (490) (io), M20 I/O (493) (io), N1 I/O (236) (io), N2 I/O (239) (io), N18 I/O (478) (io), N19 I/O (481) (io), N20 I/O (484) (io), P1 I/O (242) (io), P2 I/O (245) (io), P3 I/O (251) (io), P18 I/O (472) (io), P20 I/O (475) (io), R1 I/O (248) (io), R3 I/O (257) (io), R18 I/O (463) (io), R19 I/O (466) (io), R20 I/O (469) (io), T1 I/O (254) (io), T2 I/O (260) (io), T3 I/O (266) (io), T4 I/O (275) (io), T17 I/O (445) (io), T18 I/O (454) (io), T19 I/O (457) (io), T20 I/O (460) (io), U1 I/O (263) (io), U2 I/O (269) (io), U3 I/O (278) (io), U5 I/O (304) (io), U9 I/O (346) (io), U11 I/O (370) (io), U12 I/O (382) (io), U16 I/O (421) (io), U18 I/O, PGCK3 (442) (io), U19 I/O (439) (io), U20 I/O (451) (io), V1 I/O (272) (io), V2 I/O (281) (io), V3 I/O, SGCK2 (287) (io), V4 I/O (301) (io), V5 I/O (313) (io), V6 I/O (322) (io), V8 I/O (337) (io), V10 I/O (355) (io), V11 I/O (367) (io), V12 I/O (379) (io), V13 I/O (385) (io), V14 I/O (394) (io), V15 I/O (403) (io), V16 I/O (412) (io), V17 I/O (424) (io), V18 I/O (433) (io), V19 PROGRAM (in), V20 I/O (448) (io), W1 I/O (284) (io), W4 I/O (HDC) (298) (io), W5 I/O (316) (io), W6 I/O (325) (io), W7 I/O (331) (io), W8 I/O (340) (io), W10 I/O (352) (io), W11 I/O (INIT) (364) (io), W12 I/O (376) (io), W15 I/O (397) (io), W16 I/O (406) (io), W17 I/O (415) (io), W18 I/O (427) (io), W19 I/O, SGCK3 (436) (io), Y1 MODE (293) (in), Y2 I/O, PGCK2 (295) (io), Y3 I/O (307) (io), Y4 I/O (LDC) (310) (io), Y5 I/O (319) (io), Y6 I/O (328) (io), Y7 I/O (334) (io), Y8 I/O (343) (io), Y9 I/O (349) (io), Y10 I/O (358) (io), Y11 I/O (361) (io), Y12 I/O (373) (io), Y14 I/O (388) (io), Y15 I/O (391) (io), Y16 I/O (400) (io), Y17 I/O (409) (io), Y18 I/O (418) (io), Y19 I/O (430) (io), Y20 DONE (io)
part B pins: A1 GND (power), A7 NC, A13 NC, B7 GND (power), C8 NC, C14 VCC (power), D4 GND (power), D6 VCC (power), D7 VCC (power), D8 GND (power), D11 VCC (power), D12 NC, D13 GND (power), D14 VCC (power), D15 VCC (power), D17 GND (power), E20 VCC (power), F1 VCC (power), F4 VCC (power), F17 VCC (power), G4 VCC (power), G17 VCC (power), G20 GND (power), H4 GND (power), H17 GND (power), H20 NC, J3 NC, J4 NC, K4 VCC (power), L17 VCC (power), M4 NC, M19 NC, N3 GND (power), N4 GND (power), N17 GND (power), P4 VCC (power), P17 VCC (power), P19 VCC (power), R2 VCC (power), R4 VCC (power), R17 VCC (power), U4 GND (power), U6 VCC (power), U7 VCC (power), U8 GND (power), U10 VCC (power), U13 GND (power), U14 VCC (power), U15 VCC (power), U17 GND (power), V7 VCC (power), V9 NC, W2 NC (290), W3 NC (294), W9 NC, W13 NC, W14 GND (power), W20 VCC (power), Y13 NC

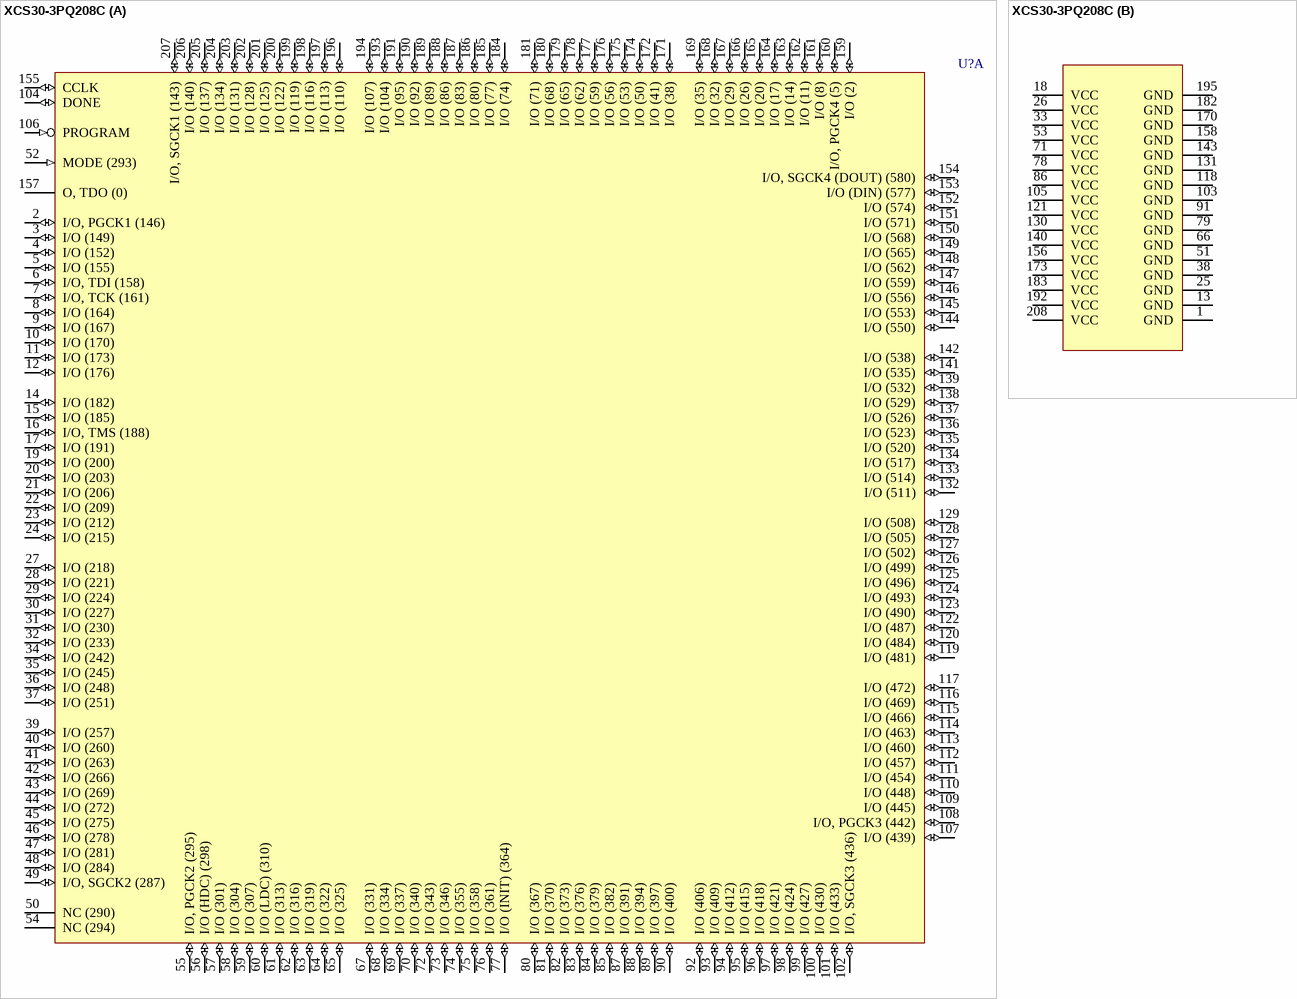
[diagram p11: symbol XCS30-3PQ208C]

## XCS30-3PQ208C
designator U?
Spartan FPGA, 169 User I/Os, 208-Pin PQFP, Speed Grade 3, Commercial Grade; Published: 13-Jul-2001; LatestRevisionDate: 16-Nov-2009; LatestRevisionNote: Updated to datasheet version 1.8 Jun-2008; DatasheetVersion: ver1.8, Jun-2008; PackageVersion: ver1.2, Jun-2004; PackageReference: PQ208; Publisher: Altium Limited; PackageDescription: 208-Pin Plastic Quad Flat Pack (PQ208); Supplier 1: Digi-Key; Supplier Part Number 1: XCS30-3PQ208C-ND; Code_JEDEC: MS-029-FA-1; ComponentLink1Description: Spartan(XL) Datasheet; ComponentLink1URL: http://www.xilinx.com/support/documentation/data_sheets/ds060.pdf; ComponentLink2Description: PQ208 Package Drawing; ComponentLink2URL: http://www.xilinx.com/support/documentation/package_specs/pq208.pdf; ComponentLink3Description: Spartan(XL) Documents; ComponentLink3URL: http://www.xilinx.com/support/documentation/spartan-xl.htm; ComponentLink4Description: Xilinx.com Home; ComponentLink4URL: http://www.xilinx.com
footprint PQ208_N (Shrink QFP, 208-Leads, Body 28x28mm, Pitch 0.5mm, IPC Medium Density)
footprint PQ208_L (Shrink QFP, 208-Leads, Body 28x28mm, Pitch 0.5mm, IPC High Density)
footprint PQ208_M (Shrink QFP, 208-Leads, Body 28x28mm, Pitch 0.5mm, IPC Low Density)
part A pins: 2 I/O, PGCK1 (146) (io), 3 I/O (149) (io), 4 I/O (152) (io), 5 I/O (155) (io), 6 I/O, TDI (158) (io), 7 I/O, TCK (161) (io), 8 I/O (164) (io), 9 I/O (167) (io), 10 I/O (170) (io), 11 I/O (173) (io), 12 I/O (176) (io), 14 I/O (182) (io), 15 I/O (185) (io), 16 I/O, TMS (188) (io), 17 I/O (191) (io), 19 I/O (200) (io), 20 I/O (203) (io), 21 I/O (206) (io), 22 I/O (209) (io), 23 I/O (212) (io), 24 I/O (215) (io), 27 I/O (218) (io), 28 I/O (221) (io), 29 I/O (224) (io), 30 I/O (227) (io), 31 I/O (230) (io), 32 I/O (233) (io), 34 I/O (242) (io), 35 I/O (245) (io), 36 I/O (248) (io), 37 I/O (251) (io), 39 I/O (257) (io), 40 I/O (260) (io), 41 I/O (263) (io), 42 I/O (266) (io), 43 I/O (269) (io), 44 I/O (272) (io), 45 I/O (275) (io), 46 I/O (278) (io), 47 I/O (281) (io), 48 I/O (284) (io), 49 I/O, SGCK2 (287) (io), 50 NC (290), 52 MODE (293) (in), 54 NC (294), 55 I/O, PGCK2 (295) (io), 56 I/O (HDC) (298) (io), 57 I/O (301) (io), 58 I/O (304) (io), 59 I/O (307) (io), 60 I/O (LDC) (310) (io), 61 I/O (313) (io), 62 I/O (316) (io), 63 I/O (319) (io), 64 I/O (322) (io), 65 I/O (325) (io), 67 I/O (331) (io), 68 I/O (334) (io), 69 I/O (337) (io), 70 I/O (340) (io), 72 I/O (343) (io), 73 I/O (346) (io), 74 I/O (355) (io), 75 I/O (358) (io), 76 I/O (361) (io), 77 I/O (INIT) (364) (io), 80 I/O (367) (io), 81 I/O (370) (io), 82 I/O (373) (io), 83 I/O (376) (io), 84 I/O (379) (io), 85 I/O (382) (io), 87 I/O (391) (io), 88 I/O (394) (io), 89 I/O (397) (io), 90 I/O (400) (io), 92 I/O (406) (io), 93 I/O (409) (io), 94 I/O (412) (io), 95 I/O (415) (io), 96 I/O (418) (io), 97 I/O (421) (io), 98 I/O (424) (io), 99 I/O (427) (io), 100 I/O (430) (io), 101 I/O (433) (io), 102 I/O, SGCK3 (436) (io), 104 DONE (io), 106 PROGRAM (in), 107 I/O (439) (io), 108 I/O, PGCK3 (442) (io), 109 I/O (445) (io), 110 I/O (448) (io), 111 I/O (454) (io), 112 I/O (457) (io), 113 I/O (460) (io), 114 I/O (463) (io), 115 I/O (466) (io), 116 I/O (469) (io), 117 I/O (472) (io), 119 I/O (481) (io), 120 I/O (484) (io), 122 I/O (487) (io), 123 I/O (490) (io), 124 I/O (493) (io), 125 I/O (496) (io), 126 I/O (499) (io), 127 I/O (502) (io), 128 I/O (505) (io), 129 I/O (508) (io), 132 I/O (511) (io), 133 I/O (514) (io), 134 I/O (517) (io), 135 I/O (520) (io), 136 I/O (523) (io), 137 I/O (526) (io), 138 I/O (529) (io), 139 I/O (532) (io), 141 I/O (535) (io), 142 I/O (538) (io), 144 I/O (550) (io), 145 I/O (553) (io), 146 I/O (556) (io), 147 I/O (559) (io), 148 I/O (562) (io), 149 I/O (565) (io), 150 I/O (568) (io), 151 I/O (571) (io), 152 I/O (574) (io), 153 I/O (DIN) (577) (io), 154 I/O, SGCK4 (DOUT) (580) (io), 155 CCLK (io), 157 O, TDO (0) (hiz), 159 I/O (2) (io), 160 I/O, PGCK4 (5) (io), 161 I/O (8) (io), 162 I/O (11) (io), 163 I/O (14) (io), 164 I/O (17) (io), 165 I/O (20) (io), 166 I/O (26) (io), 167 I/O (29) (io), 168 I/O (32) (io), 169 I/O (35) (io), 171 I/O (38) (io), 172 I/O (41) (io), 174 I/O (50) (io), 175 I/O (53) (io), 176 I/O (56) (io), 177 I/O (59) (io), 178 I/O (62) (io), 179 I/O (65) (io), 180 I/O (68) (io), 181 I/O (71) (io), 184 I/O (74) (io), 185 I/O (77) (io), 186 I/O (80) (io), 187 I/O (83) (io), 188 I/O (86) (io), 189 I/O (89) (io), 190 I/O (92) (io), 191 I/O (95) (io), 193 I/O (104) (io), 194 I/O (107) (io), 196 I/O (110) (io), 197 I/O (113) (io), 198 I/O (116) (io), 199 I/O (119) (io), 200 I/O (122) (io), 201 I/O (125) (io), 202 I/O (128) (io), 203 I/O (131) (io), 204 I/O (134) (io), 205 I/O (137) (io), 206 I/O (140) (io), 207 I/O, SGCK1 (143) (io)
part B pins: 1 GND (power), 13 GND (power), 18 VCC (power), 25 GND (power), 26 VCC (power), 33 VCC (power), 38 GND (power), 51 GND (power), 53 VCC (power), 66 GND (power), 71 VCC (power), 78 VCC (power), 79 GND (power), 86 VCC (power), 91 GND (power), 103 GND (power), 105 VCC (power), 118 GND (power), 121 VCC (power), 130 VCC (power), 131 GND (power), 140 VCC (power), 143 GND (power), 156 VCC (power), 158 GND (power), 170 GND (power), 173 VCC (power), 182 GND (power), 183 VCC (power), 192 VCC (power), 195 GND (power), 208 VCC (power)

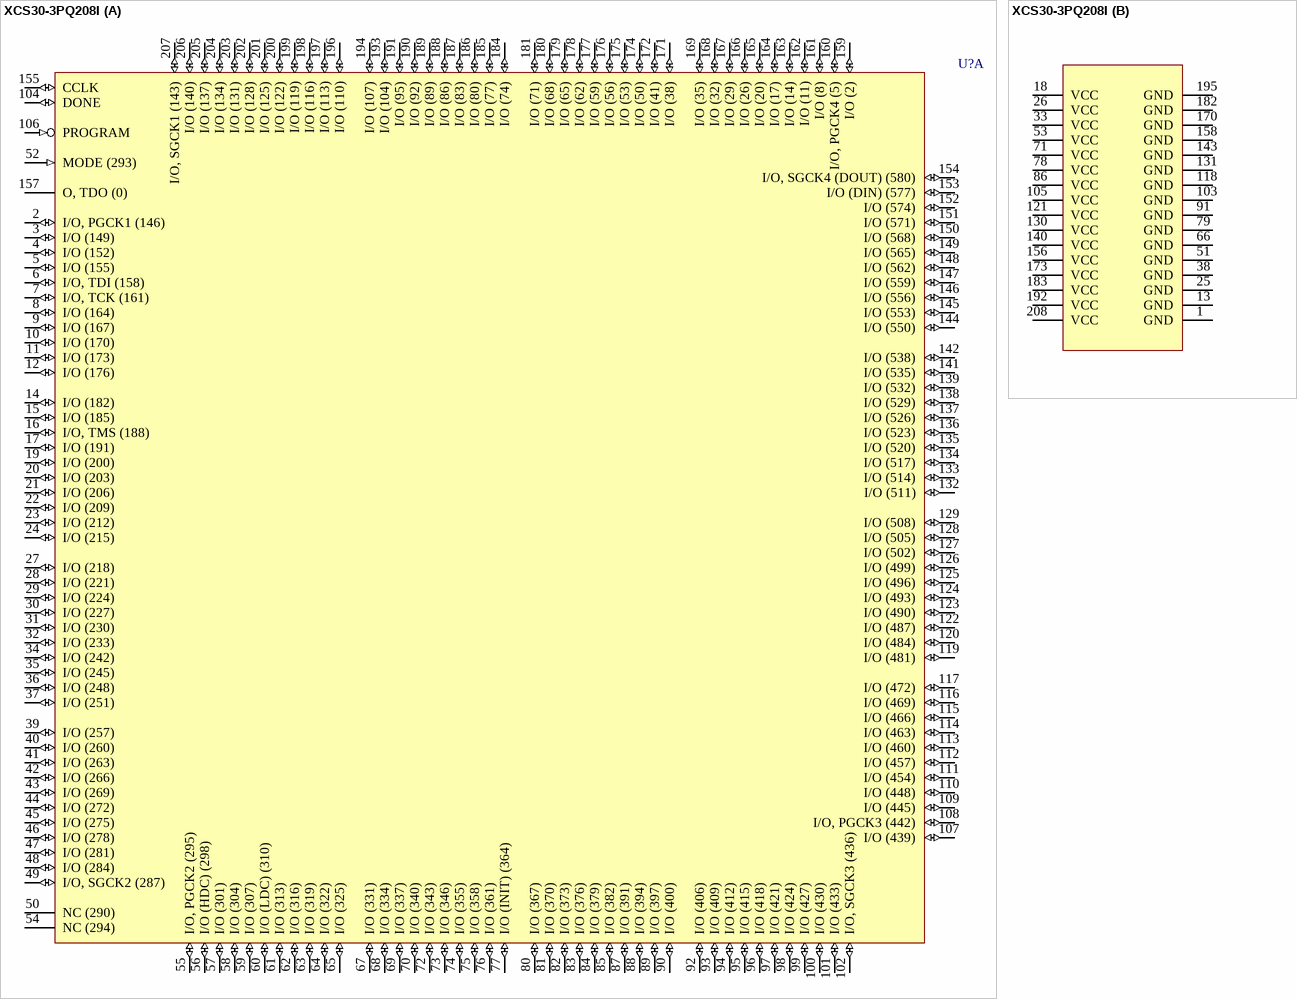
[diagram p12: symbol XCS30-3PQ208I]

## XCS30-3PQ208I
designator U?
Spartan FPGA, 169 User I/Os, 208-Pin PQFP, Speed Grade 3, Industrial Grade; Published: 13-Jul-2001; LatestRevisionDate: 16-Nov-2009; LatestRevisionNote: Updated to datasheet version 1.8 Jun-2008; DatasheetVersion: ver1.8, Jun-2008; PackageVersion: ver1.2, Jun-2004; PackageReference: PQ208; Publisher: Altium Limited; PackageDescription: 208-Pin Plastic Quad Flat Pack (PQ208); Supplier 1: Digi-Key; Supplier Part Number 1: XCS30-3PQ208I-ND; Code_JEDEC: MS-029-FA-1; ComponentLink1Description: Spartan(XL) Datasheet; ComponentLink1URL: http://www.xilinx.com/support/documentation/data_sheets/ds060.pdf; ComponentLink2Description: PQ208 Package Drawing; ComponentLink2URL: http://www.xilinx.com/support/documentation/package_specs/pq208.pdf; ComponentLink3Description: Spartan(XL) Documents; ComponentLink3URL: http://www.xilinx.com/support/documentation/spartan-xl.htm; ComponentLink4Description: Xilinx.com Home; ComponentLink4URL: http://www.xilinx.com
footprint PQ208_N (Shrink QFP, 208-Leads, Body 28x28mm, Pitch 0.5mm, IPC Medium Density)
footprint PQ208_L (Shrink QFP, 208-Leads, Body 28x28mm, Pitch 0.5mm, IPC High Density)
footprint PQ208_M (Shrink QFP, 208-Leads, Body 28x28mm, Pitch 0.5mm, IPC Low Density)
part A pins: 2 I/O, PGCK1 (146) (io), 3 I/O (149) (io), 4 I/O (152) (io), 5 I/O (155) (io), 6 I/O, TDI (158) (io), 7 I/O, TCK (161) (io), 8 I/O (164) (io), 9 I/O (167) (io), 10 I/O (170) (io), 11 I/O (173) (io), 12 I/O (176) (io), 14 I/O (182) (io), 15 I/O (185) (io), 16 I/O, TMS (188) (io), 17 I/O (191) (io), 19 I/O (200) (io), 20 I/O (203) (io), 21 I/O (206) (io), 22 I/O (209) (io), 23 I/O (212) (io), 24 I/O (215) (io), 27 I/O (218) (io), 28 I/O (221) (io), 29 I/O (224) (io), 30 I/O (227) (io), 31 I/O (230) (io), 32 I/O (233) (io), 34 I/O (242) (io), 35 I/O (245) (io), 36 I/O (248) (io), 37 I/O (251) (io), 39 I/O (257) (io), 40 I/O (260) (io), 41 I/O (263) (io), 42 I/O (266) (io), 43 I/O (269) (io), 44 I/O (272) (io), 45 I/O (275) (io), 46 I/O (278) (io), 47 I/O (281) (io), 48 I/O (284) (io), 49 I/O, SGCK2 (287) (io), 50 NC (290), 52 MODE (293) (in), 54 NC (294), 55 I/O, PGCK2 (295) (io), 56 I/O (HDC) (298) (io), 57 I/O (301) (io), 58 I/O (304) (io), 59 I/O (307) (io), 60 I/O (LDC) (310) (io), 61 I/O (313) (io), 62 I/O (316) (io), 63 I/O (319) (io), 64 I/O (322) (io), 65 I/O (325) (io), 67 I/O (331) (io), 68 I/O (334) (io), 69 I/O (337) (io), 70 I/O (340) (io), 72 I/O (343) (io), 73 I/O (346) (io), 74 I/O (355) (io), 75 I/O (358) (io), 76 I/O (361) (io), 77 I/O (INIT) (364) (io), 80 I/O (367) (io), 81 I/O (370) (io), 82 I/O (373) (io), 83 I/O (376) (io), 84 I/O (379) (io), 85 I/O (382) (io), 87 I/O (391) (io), 88 I/O (394) (io), 89 I/O (397) (io), 90 I/O (400) (io), 92 I/O (406) (io), 93 I/O (409) (io), 94 I/O (412) (io), 95 I/O (415) (io), 96 I/O (418) (io), 97 I/O (421) (io), 98 I/O (424) (io), 99 I/O (427) (io), 100 I/O (430) (io), 101 I/O (433) (io), 102 I/O, SGCK3 (436) (io), 104 DONE (io), 106 PROGRAM (in), 107 I/O (439) (io), 108 I/O, PGCK3 (442) (io), 109 I/O (445) (io), 110 I/O (448) (io), 111 I/O (454) (io), 112 I/O (457) (io), 113 I/O (460) (io), 114 I/O (463) (io), 115 I/O (466) (io), 116 I/O (469) (io), 117 I/O (472) (io), 119 I/O (481) (io), 120 I/O (484) (io), 122 I/O (487) (io), 123 I/O (490) (io), 124 I/O (493) (io), 125 I/O (496) (io), 126 I/O (499) (io), 127 I/O (502) (io), 128 I/O (505) (io), 129 I/O (508) (io), 132 I/O (511) (io), 133 I/O (514) (io), 134 I/O (517) (io), 135 I/O (520) (io), 136 I/O (523) (io), 137 I/O (526) (io), 138 I/O (529) (io), 139 I/O (532) (io), 141 I/O (535) (io), 142 I/O (538) (io), 144 I/O (550) (io), 145 I/O (553) (io), 146 I/O (556) (io), 147 I/O (559) (io), 148 I/O (562) (io), 149 I/O (565) (io), 150 I/O (568) (io), 151 I/O (571) (io), 152 I/O (574) (io), 153 I/O (DIN) (577) (io), 154 I/O, SGCK4 (DOUT) (580) (io), 155 CCLK (io), 157 O, TDO (0) (hiz), 159 I/O (2) (io), 160 I/O, PGCK4 (5) (io), 161 I/O (8) (io), 162 I/O (11) (io), 163 I/O (14) (io), 164 I/O (17) (io), 165 I/O (20) (io), 166 I/O (26) (io), 167 I/O (29) (io), 168 I/O (32) (io), 169 I/O (35) (io), 171 I/O (38) (io), 172 I/O (41) (io), 174 I/O (50) (io), 175 I/O (53) (io), 176 I/O (56) (io), 177 I/O (59) (io), 178 I/O (62) (io), 179 I/O (65) (io), 180 I/O (68) (io), 181 I/O (71) (io), 184 I/O (74) (io), 185 I/O (77) (io), 186 I/O (80) (io), 187 I/O (83) (io), 188 I/O (86) (io), 189 I/O (89) (io), 190 I/O (92) (io), 191 I/O (95) (io), 193 I/O (104) (io), 194 I/O (107) (io), 196 I/O (110) (io), 197 I/O (113) (io), 198 I/O (116) (io), 199 I/O (119) (io), 200 I/O (122) (io), 201 I/O (125) (io), 202 I/O (128) (io), 203 I/O (131) (io), 204 I/O (134) (io), 205 I/O (137) (io), 206 I/O (140) (io), 207 I/O, SGCK1 (143) (io)
part B pins: 1 GND (power), 13 GND (power), 18 VCC (power), 25 GND (power), 26 VCC (power), 33 VCC (power), 38 GND (power), 51 GND (power), 53 VCC (power), 66 GND (power), 71 VCC (power), 78 VCC (power), 79 GND (power), 86 VCC (power), 91 GND (power), 103 GND (power), 105 VCC (power), 118 GND (power), 121 VCC (power), 130 VCC (power), 131 GND (power), 140 VCC (power), 143 GND (power), 156 VCC (power), 158 GND (power), 170 GND (power), 173 VCC (power), 182 GND (power), 183 VCC (power), 192 VCC (power), 195 GND (power), 208 VCC (power)

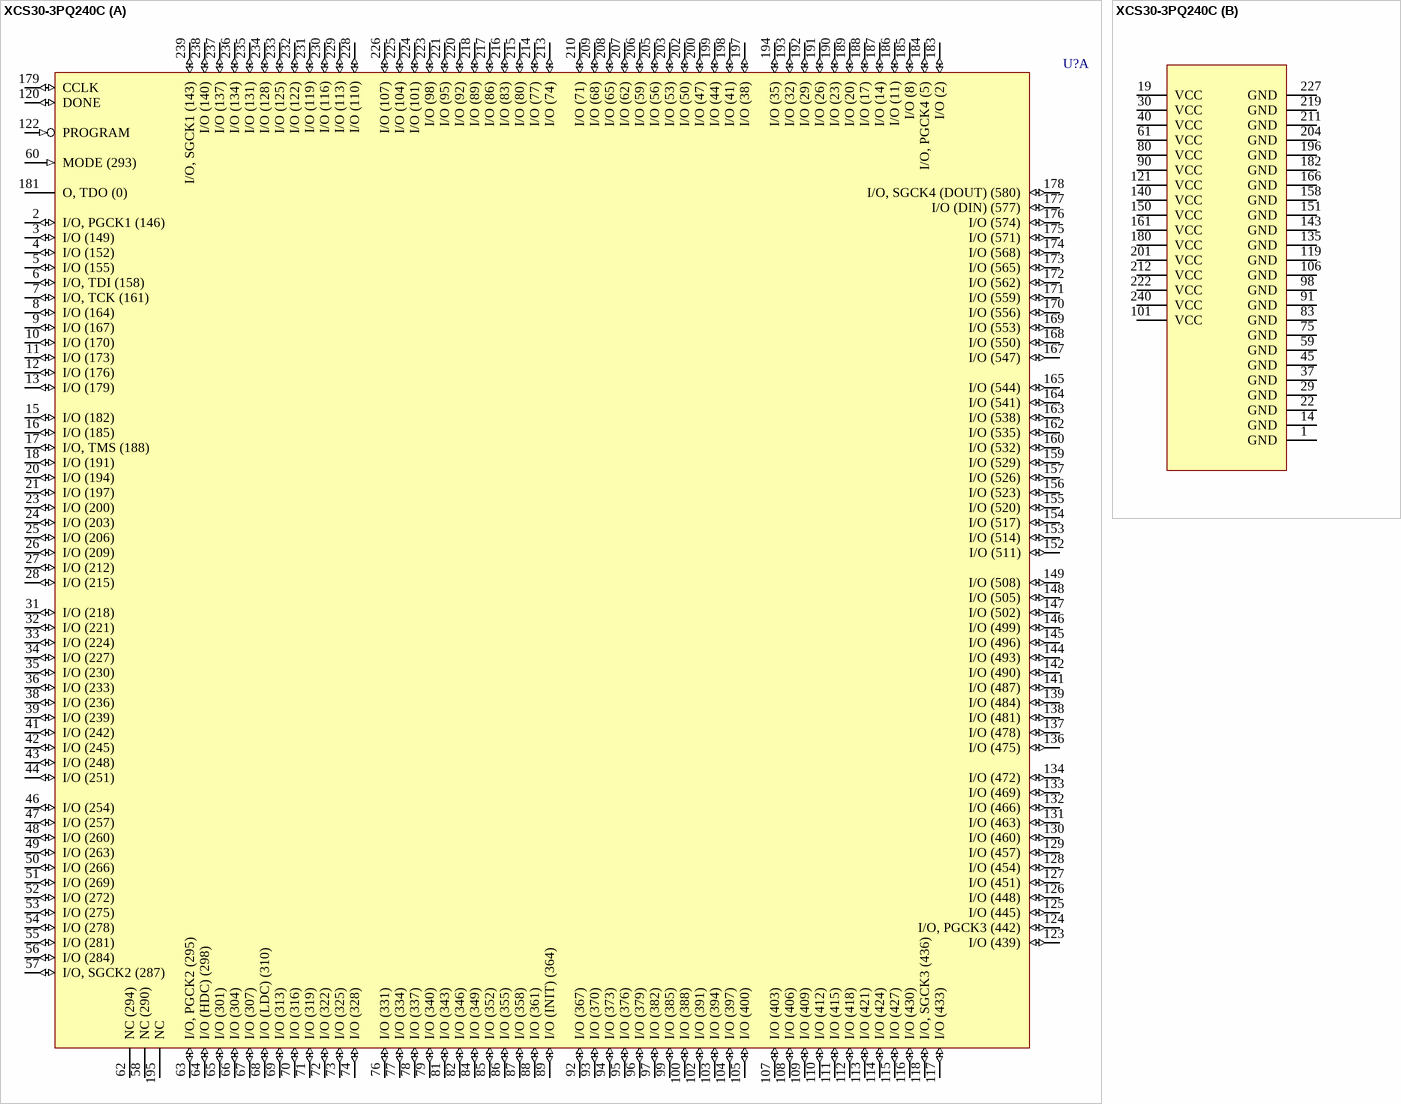
[diagram p13: symbol XCS30-3PQ240C]

## XCS30-3PQ240C
designator U?
Spartan FPGA, 192 User I/Os, 240-Pin PQFP, Speed Grade 3, Commercial Grade; Published: 13-Jul-2001; LatestRevisionDate: 16-Nov-2009; LatestRevisionNote: Updated to datasheet version 1.8 Jun-2008; DatasheetVersion: ver1.8, Jun-2008; PackageVersion: ver1.2, Jun-2004; PackageReference: PQ240; Publisher: Altium Limited; PackageDescription: 240-Pin Plastic Quad Flat Pack (PQ240); Supplier 1: Digi-Key; Supplier Part Number 1: XCS30-3PQ240C-ND; Supplier 2: Newark; Supplier Part Number 2: 31M3592; Code_JEDEC: MO-143-GA; ComponentLink1Description: Spartan(XL) Datasheet; ComponentLink1URL: http://www.xilinx.com/support/documentation/data_sheets/ds060.pdf; ComponentLink2Description: PQ240 Package Drawing; ComponentLink2URL: http://www.xilinx.com/support/documentation/package_specs/pq240.pdf; ComponentLink3Description: Spartan(XL) Documents; ComponentLink3URL: http://www.xilinx.com/support/documentation/spartan-xl.htm; ComponentLink4Description: Xilinx.com Home; ComponentLink4URL: http://www.xilinx.com
footprint PQ240_N (Shrink QFP, 240-Leads, Body 32x32mm, Pitch 0.5mm, IPC Medium Density)
footprint PQ240_L (Shrink QFP, 240-Leads, Body 32x32mm, Pitch 0.5mm, IPC High Density)
footprint PQ240_M (Shrink QFP, 240-Leads, Body 32x32mm, Pitch 0.5mm, IPC Low Density)
part A pins: 2 I/O, PGCK1 (146) (io), 3 I/O (149) (io), 4 I/O (152) (io), 5 I/O (155) (io), 6 I/O, TDI (158) (io), 7 I/O, TCK (161) (io), 8 I/O (164) (io), 9 I/O (167) (io), 10 I/O (170) (io), 11 I/O (173) (io), 12 I/O (176) (io), 13 I/O (179) (io), 15 I/O (182) (io), 16 I/O (185) (io), 17 I/O, TMS (188) (io), 18 I/O (191) (io), 20 I/O (194) (io), 21 I/O (197) (io), 23 I/O (200) (io), 24 I/O (203) (io), 25 I/O (206) (io), 26 I/O (209) (io), 27 I/O (212) (io), 28 I/O (215) (io), 31 I/O (218) (io), 32 I/O (221) (io), 33 I/O (224) (io), 34 I/O (227) (io), 35 I/O (230) (io), 36 I/O (233) (io), 38 I/O (236) (io), 39 I/O (239) (io), 41 I/O (242) (io), 42 I/O (245) (io), 43 I/O (248) (io), 44 I/O (251) (io), 46 I/O (254) (io), 47 I/O (257) (io), 48 I/O (260) (io), 49 I/O (263) (io), 50 I/O (266) (io), 51 I/O (269) (io), 52 I/O (272) (io), 53 I/O (275) (io), 54 I/O (278) (io), 55 I/O (281) (io), 56 I/O (284) (io), 57 I/O, SGCK2 (287) (io), 58 NC (290), 60 MODE (293) (in), 62 NC (294), 63 I/O, PGCK2 (295) (io), 64 I/O (HDC) (298) (io), 65 I/O (301) (io), 66 I/O (304) (io), 67 I/O (307) (io), 68 I/O (LDC) (310) (io), 69 I/O (313) (io), 70 I/O (316) (io), 71 I/O (319) (io), 72 I/O (322) (io), 73 I/O (325) (io), 74 I/O (328) (io), 76 I/O (331) (io), 77 I/O (334) (io), 78 I/O (337) (io), 79 I/O (340) (io), 81 I/O (343) (io), 82 I/O (346) (io), 84 I/O (349) (io), 85 I/O (352) (io), 86 I/O (355) (io), 87 I/O (358) (io), 88 I/O (361) (io), 89 I/O (INIT) (364) (io), 92 I/O (367) (io), 93 I/O (370) (io), 94 I/O (373) (io), 95 I/O (376) (io), 96 I/O (379) (io), 97 I/O (382) (io), 99 I/O (385) (io), 100 I/O (388) (io), 102 I/O (391) (io), 103 I/O (394) (io), 104 I/O (397) (io), 105 I/O (400) (io), 107 I/O (403) (io), 108 I/O (406) (io), 109 I/O (409) (io), 110 I/O (412) (io), 111 I/O (415) (io), 112 I/O (418) (io), 113 I/O (421) (io), 114 I/O (424) (io), 115 I/O (427) (io), 116 I/O (430) (io), 117 I/O (433) (io), 118 I/O, SGCK3 (436) (io), 120 DONE (io), 122 PROGRAM (in), 123 I/O (439) (io), 124 I/O, PGCK3 (442) (io), 125 I/O (445) (io), 126 I/O (448) (io), 127 I/O (451) (io), 128 I/O (454) (io), 129 I/O (457) (io), 130 I/O (460) (io), 131 I/O (463) (io), 132 I/O (466) (io), 133 I/O (469) (io), 134 I/O (472) (io), 136 I/O (475) (io), 137 I/O (478) (io), 138 I/O (481) (io), 139 I/O (484) (io), 141 I/O (487) (io), 142 I/O (490) (io), 144 I/O (493) (io), 145 I/O (496) (io), 146 I/O (499) (io), 147 I/O (502) (io), 148 I/O (505) (io), 149 I/O (508) (io), 152 I/O (511) (io), 153 I/O (514) (io), 154 I/O (517) (io), 155 I/O (520) (io), 156 I/O (523) (io), 157 I/O (526) (io), 159 I/O (529) (io), 160 I/O (532) (io), 162 I/O (535) (io), 163 I/O (538) (io), 164 I/O (541) (io), 165 I/O (544) (io), 167 I/O (547) (io), 168 I/O (550) (io), 169 I/O (553) (io), 170 I/O (556) (io), 171 I/O (559) (io), 172 I/O (562) (io), 173 I/O (565) (io), 174 I/O (568) (io), 175 I/O (571) (io), 176 I/O (574) (io), 177 I/O (DIN) (577) (io), 178 I/O, SGCK4 (DOUT) (580) (io), 179 CCLK (io), 181 O, TDO (0) (hiz), 183 I/O (2) (io), 184 I/O, PGCK4 (5) (io), 185 I/O (8) (io), 186 I/O (11) (io), 187 I/O (14) (io), 188 I/O (17) (io), 189 I/O (20) (io), 190 I/O (23) (io), 191 I/O (26) (io), 192 I/O (29) (io), 193 I/O (32) (io), 194 I/O (35) (io), 195 NC, 197 I/O (38) (io), 198 I/O (41) (io), 199 I/O (44) (io), 200 I/O (47) (io), 202 I/O (50) (io), 203 I/O (53) (io), 205 I/O (56) (io), 206 I/O (59) (io), 207 I/O (62) (io), 208 I/O (65) (io), 209 I/O (68) (io), 210 I/O (71) (io), 213 I/O (74) (io), 214 I/O (77) (io), 215 I/O (80) (io), 216 I/O (83) (io), 217 I/O (86) (io), 218 I/O (89) (io), 220 I/O (92) (io), 221 I/O (95) (io), 223 I/O (98) (io), 224 I/O (101) (io), 225 I/O (104) (io), 226 I/O (107) (io), 228 I/O (110) (io), 229 I/O (113) (io), 230 I/O (116) (io), 231 I/O (119) (io), 232 I/O (122) (io), 233 I/O (125) (io), 234 I/O (128) (io), 235 I/O (131) (io), 236 I/O (134) (io), 237 I/O (137) (io), 238 I/O (140) (io), 239 I/O, SGCK1 (143) (io)
part B pins: 1 GND (power), 14 GND (power), 19 VCC (power), 22 GND (power), 29 GND (power), 30 VCC (power), 37 GND (power), 40 VCC (power), 45 GND (power), 59 GND (power), 61 VCC (power), 75 GND (power), 80 VCC (power), 83 GND (power), 90 VCC (power), 91 GND (power), 98 GND (power), 101 VCC (power), 106 GND (power), 119 GND (power), 121 VCC (power), 135 GND (power), 140 VCC (power), 143 GND (power), 150 VCC (power), 151 GND (power), 158 GND (power), 161 VCC (power), 166 GND (power), 180 VCC (power), 182 GND (power), 196 GND (power), 201 VCC (power), 204 GND (power), 211 GND (power), 212 VCC (power), 219 GND (power), 222 VCC (power), 227 GND (power), 240 VCC (power)

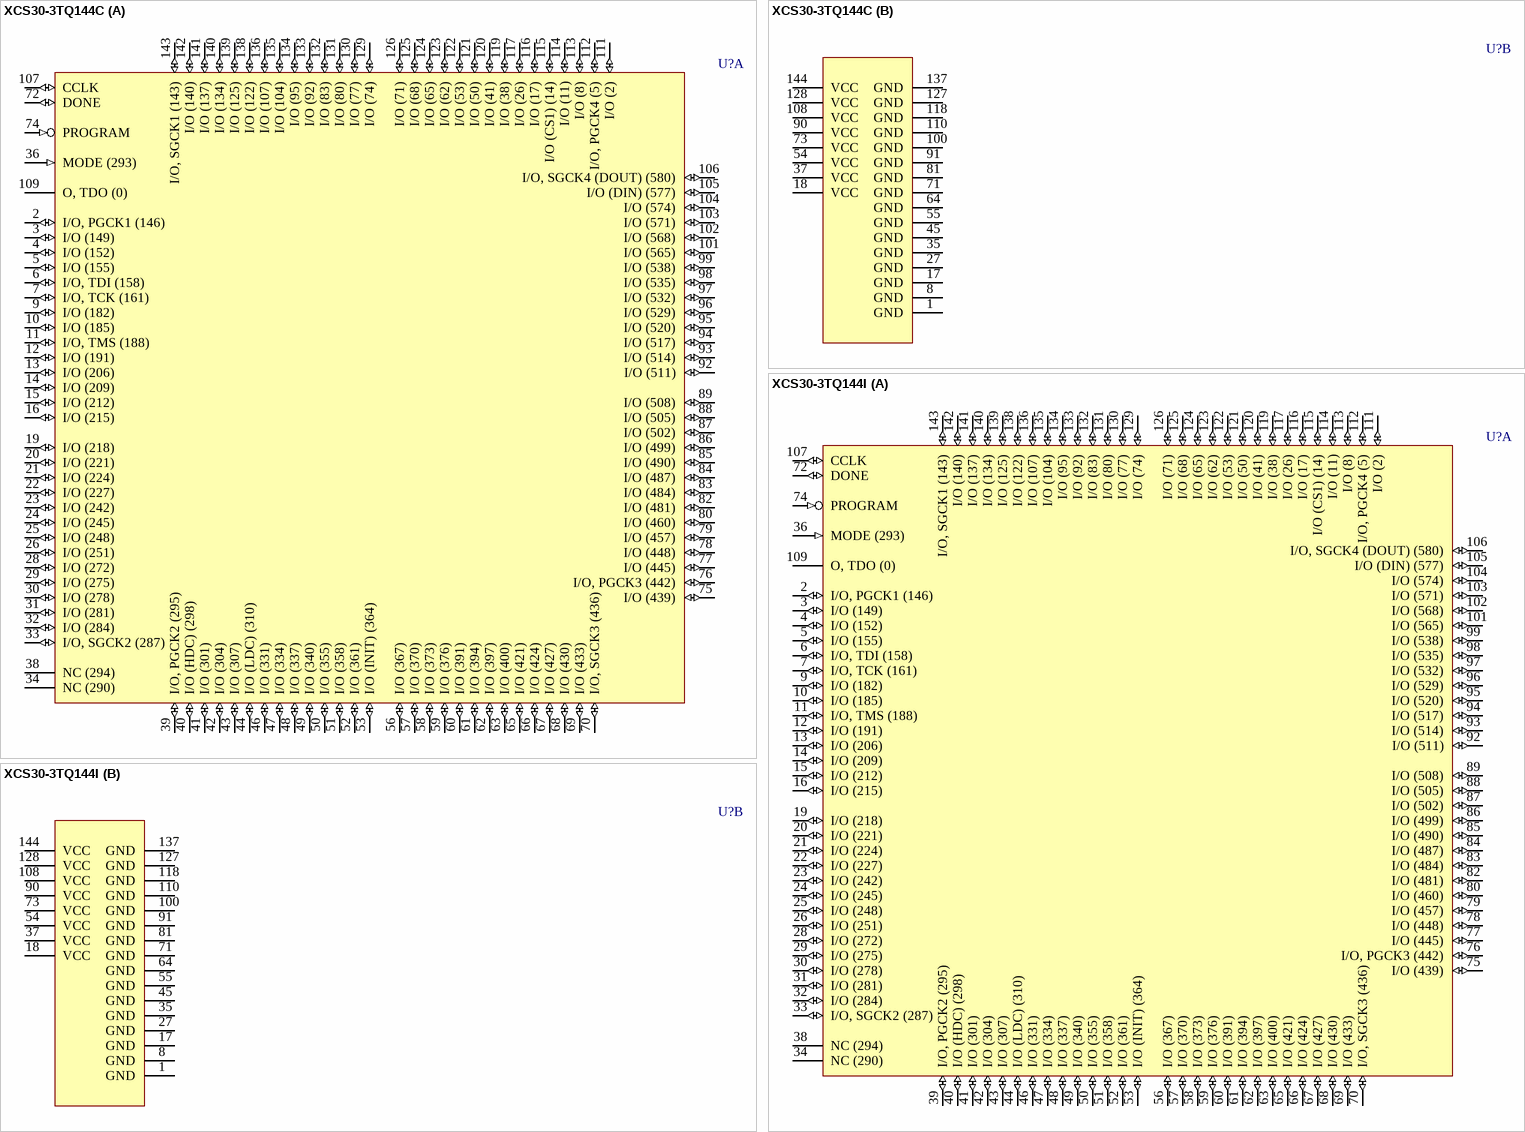
[diagram p14: symbols XCS30-3TQ144C to XCS30-3TQ144I]